# Altium schematic symbol library sun_library2.SchLib: 548 symbols (part 1 of 5)
Pins are listed as number, name and electrical type; pins without a type are passive.

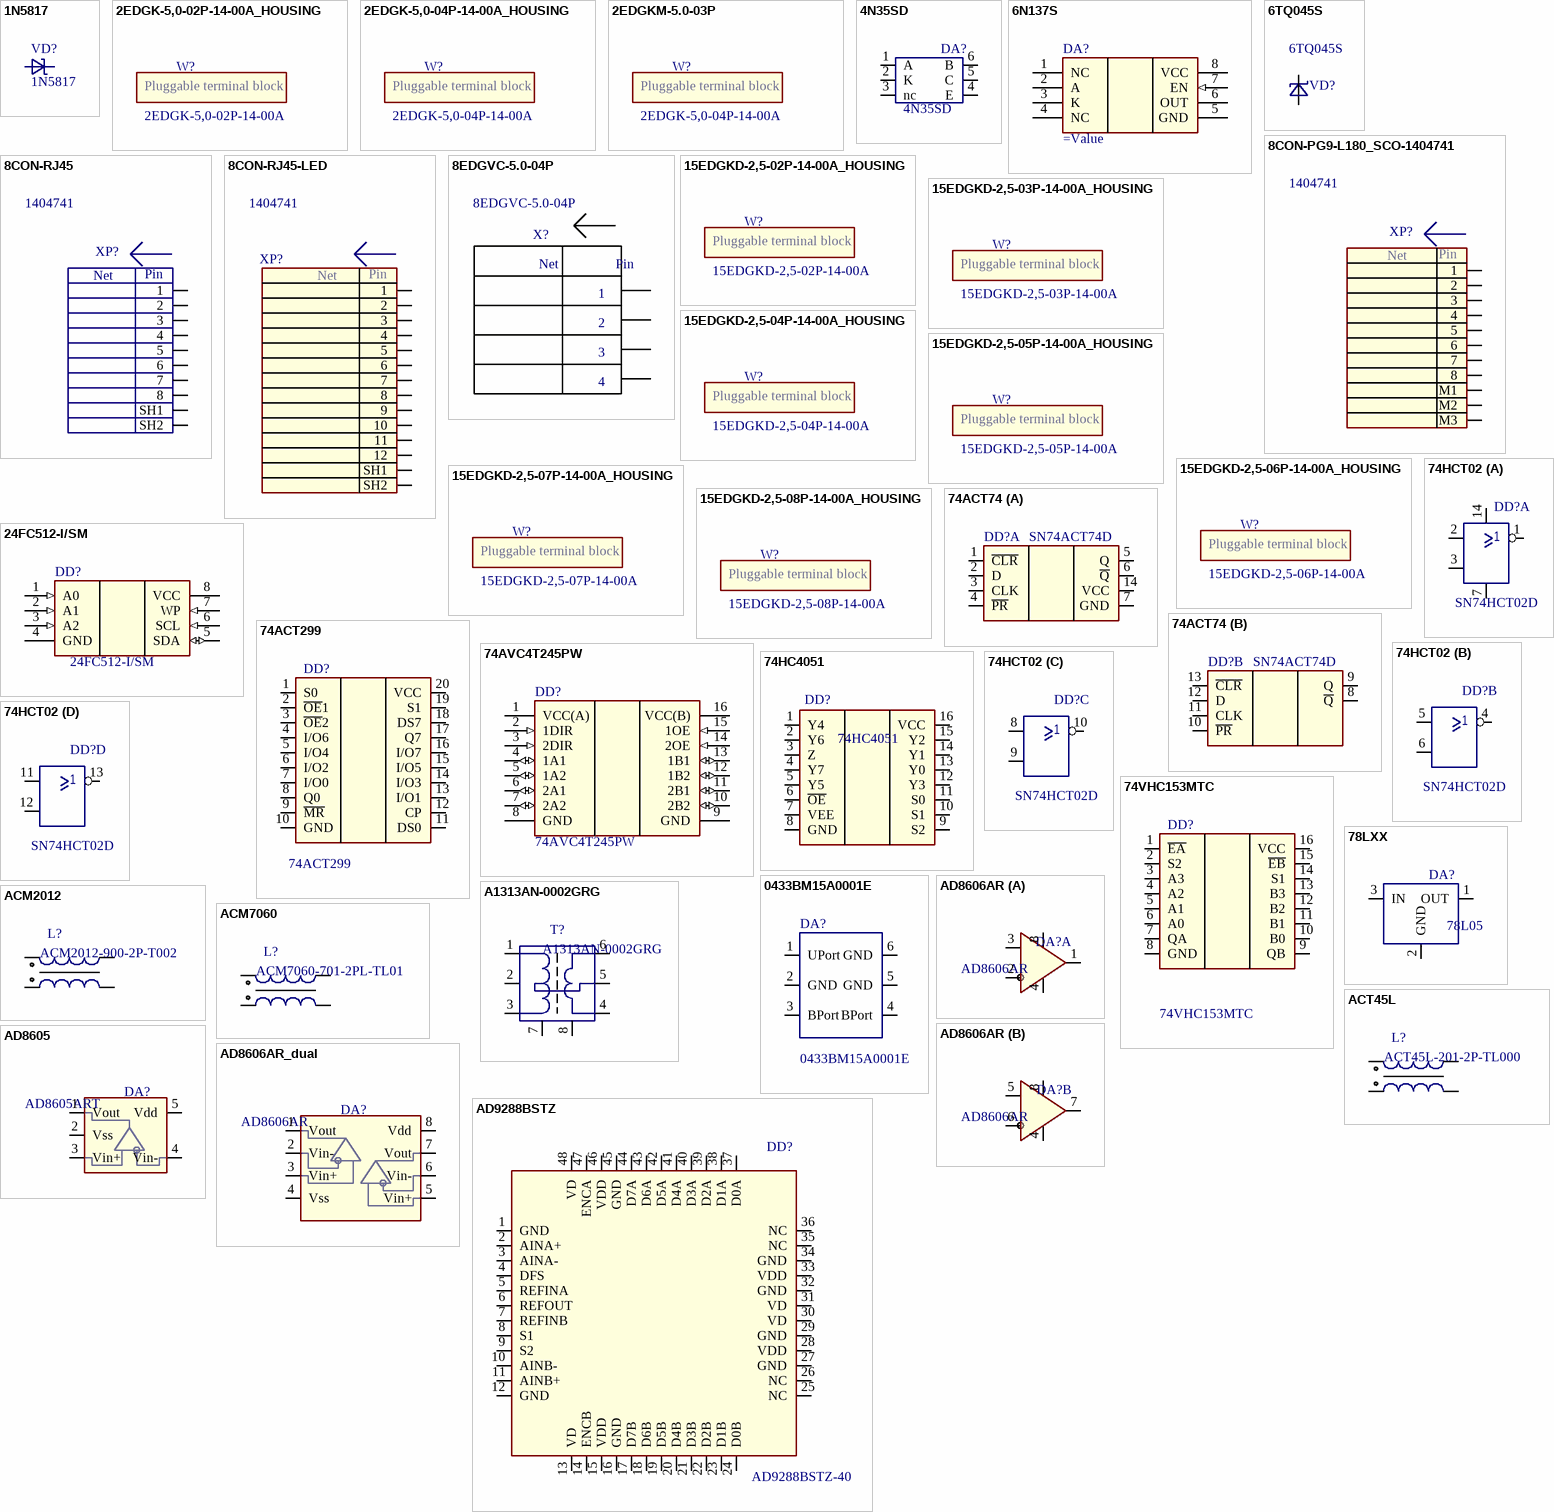
[diagram p0: symbols 1N5817 to AD9288BSTZ]

## 1N5817
designator VD?
Diode Shottky; Value: 1N5817
pins: A, C

## 2EDGK-5,0-02P-14-00A_HOUSING
designator W?, comment 2EDGK-5,0-02P-14-00A  (mechanical)
Value: 2EDGK-5,0-02P-14-00A
pins: 3 NC (power) hidden, 6 B hidden
text: Pluggable terminal block

## 2EDGK-5,0-04P-14-00A_HOUSING
designator W?, comment 2EDGK-5,0-04P-14-00A  (mechanical)
Value: 2EDGK-5,0-04P-14-00A
pins: 3 NC (power) hidden, 6 B hidden
text: Pluggable terminal block

## 2EDGKM-5.0-03P
designator W?, comment 2EDGK-5,0-04P-14-00A  (mechanical)
2EDGKM-5.0-03P-14-00A(H); Value: 2EDGK-5,0-04P-14-00A
pins: 3 NC (power) hidden, 6 B hidden
text: Pluggable terminal block

## 4N35SD
designator DA?
м/сх; Value: 4N35SD
footprint 4N35SD (Оптрон)
pins: 1 A (power), 2 K, 3 NC (power) hidden, 3 nc, 4 E, 5 C, 6 B hidden, 6 B

## 6N137S
designator DA?
Оптрон 10(1)Mbs
pins: 1 NC, 2 A, 3 K, 4 NC, 5 GND (power), 6 OUT (oc), 7 EN (in), 8 VCC (power)

## 6TQ045S
designator VD?
Value: 6TQ045S
pins: 1 hidden, 2, 3

## 8CON-PG9-L180_SCO-1404741
designator XP?, comment 1404741
Клеммник разъемный прямой; Value: 1404741
pins: 1, 2, 3, 4, 5, 6, 7, 8, M1, M2, M3
text: Net; Pin

## 8CON-RJ45
designator XP?, comment 1404741
RJ-45 экранированный прямой; Value: 1404741
pins: 1, 2, 3, 4, 5, 6, 7, 8, SH1, SH2
text: Net; Pin

## 8CON-RJ45-LED
designator XP?, comment 1404741
RJ-45 экранированный прямой; Value: 1404741
pins: 1, 2, 3, 4, 5, 6, 7, 8, 9, 10, 11, 12, SH1, SH2
text: Net; Pin

## 8EDGVC-5.0-04P
designator X?
Клеммник разъемный прямой; Value: 8EDGVC-5.0-04P
pins: 1, 2, 3, 4
text: Net; Pin

## 15EDGKD-2,5-02P-14-00A_HOUSING
designator W?, comment 15EDGKD-2,5-02P-14-00A  (mechanical)
Value: 15EDGKD-2,5-02P-14-00A
pins: 3 NC (power) hidden, 6 B hidden
text: Pluggable terminal block

## 15EDGKD-2,5-03P-14-00A_HOUSING
designator W?, comment 15EDGKD-2,5-03P-14-00A  (mechanical)
Value: 15EDGKD-2,5-03P-14-00A
pins: 3 NC (power) hidden, 6 B hidden
text: Pluggable terminal block

## 15EDGKD-2,5-04P-14-00A_HOUSING
designator W?, comment 15EDGKD-2,5-04P-14-00A  (mechanical)
Value: 15EDGKD-2,5-04P-14-00A
pins: 3 NC (power) hidden, 6 B hidden
text: Pluggable terminal block

## 15EDGKD-2,5-05P-14-00A_HOUSING
designator W?, comment 15EDGKD-2,5-05P-14-00A  (mechanical)
Value: 15EDGKD-2,5-05P-14-00A
pins: 3 NC (power) hidden, 6 B hidden
text: Pluggable terminal block

## 15EDGKD-2,5-06P-14-00A_HOUSING
designator W?, comment 15EDGKD-2,5-06P-14-00A  (mechanical)
Value: 15EDGKD-2,5-06P-14-00A
pins: 3 NC (power) hidden, 6 B hidden
text: Pluggable terminal block

## 15EDGKD-2,5-07P-14-00A_HOUSING
designator W?, comment 15EDGKD-2,5-07P-14-00A  (mechanical)
Value: 15EDGKD-2,5-07P-14-00A
pins: 3 NC (power) hidden, 6 B hidden
text: Pluggable terminal block

## 15EDGKD-2,5-08P-14-00A_HOUSING
designator W?, comment 15EDGKD-2,5-08P-14-00A  (mechanical)
Value: 15EDGKD-2,5-08P-14-00A
pins: 3 NC (power) hidden, 6 B hidden
text: Pluggable terminal block

## 24FC512-I/SM
designator DD?
I²C™ Serial EEPROM; Value: 24FC512-I/SM
pins: 1 A0 (in), 2 A1 (in), 3 A2 (in), 4 GND (power), 5 SDA (io), 6 SCL (in), 7 WP (in), 8 VCC (power)

## 74ACT74
designator DD?, comment SN74ACT74D
Микросхема SN74ACT74D SO-14 Texas Instr.; Manufacturer: Texas Instruments; Code: 99100178; Identifier: SN74ACT74D SO-14 Texas; Case: SO14; Part Number: SN74ACT74D; Value: SN74ACT74D
footprint SO-14
footprint SO14_L
part A pins: 1 ~{CLR}, 2 D (power), 3 CLK, 4 ~{PR}, 5 Q, 6 ~{Q}, 7 GND, 14 VCC
part B pins: 8 ~{Q}, 9 Q, 10 ~{PR}, 11 CLK, 12 D (power), 13 ~{CLR}

## 74ACT299
designator DD?
Register 8-bit; Value: 74ACT299
footprint SO-20 (20-Pin Small Outline Integrated Circuit 1.27 mm Pitch, IPC High Density)
pins: 1 S0, 2 ~{OE}1, 3 ~{OE}2, 4 I/O6, 5 I/O4, 6 I/O2, 7 I/O0, 8 Q0, 9 ~{MR}, 10 GND (power), 11 DS0, 12 CP, 13 I/O1, 14 I/O3, 15 I/O5, 16 I/O7, 17 Q7, 18 DS7 (power), 19 S1, 20 VCC (power)

## 74AVC4T245PW
designator DD?
4-bit dual supply translating transceiver; Value: 74AVC4T245PW
pins: 1 VCC(A) (power), 2 1DIR (in), 3 2DIR (in), 4 1A1 (io), 5 1A2 (io), 6 2A1 (io), 7 2A2 (io), 8 GND (power), 9 GND (power), 10 2B2 (io), 11 2B1 (io), 12 1B2 (io), 13 1B1 (io), 14 2OE (in), 15 1OE (in), 16 VCC(B) (power)

## 74HC4051
designator DD?
8-channel analog multiplexer/demultiplexer; Value: 74HC4051
pins: 1 Y4, 2 Y6, 3 Z, 4 Y7, 5 Y5, 6 ~{OE}, 7 VEE, 8 GND, 9 S2, 10 S1 (power), 11 S0, 12 Y3, 13 Y0, 14 Y1, 15 Y2, 16 VCC

## 74HCT02
designator DD?, comment SN74HCT02D
Quad 2-Input NOR Gate; Value: SN74HCT02D
footprint 751A-03_N (SOIC, 14-Leads, Body 8.7x3.9mm, Pitch 1.27mm, IPC Medium Density)
footprint 751A-03_L (SOIC, 14-Leads, Body 8.7x3.9mm, Pitch 1.27mm, IPC High Density)
footprint 751A-03_M (SOIC, 14-Leads, Body 8.7x3.9mm, Pitch 1.27mm, IPC Low Density)
footprint SO-14
part A pins: 1 ~{Y}, 2 A, 3 B, 7 GND, 14 VCC
part B pins: 4 ~{Y}, 5 A, 6 B
part C pins: 8 A, 9 B, 10 ~{Y}
part D pins: 11 A, 12 B, 13 ~{Y}

## 74VHC153MTC
designator DD?
м/сх, мультиплексор 4 в1, 2-х битный; Value: 74VHC153MTC
footprint TSSOP-16 (pitch 0.65mm)
pins: 1 ~{ЕА}, 2 S2, 3 A3, 4 A2, 5 A1, 6 A0, 7 QA, 8 GND (power), 9 QB, 10 B0, 11 B1, 12 B2, 13 B3, 14 S1, 15 ~{EB}, 16 VCC (power)

## 78LXX
designator DA?, comment 78L05
Линейный стабилизатор; Value: 78L05
pins: 1 OUT, 2 GND, 3 IN

## 0433BM15A0001E
designator DA?
0433BM15A0001E 433 MHz Impedance Matched/Balun/LPF Integrated Component for T.I. CC110X; Value: 0433BM15A0001E
pins: 1 UPort (power), 2 GND, 3 BPort, 4 BPort (power), 5 GND (power), 6 GND

## A1313AN-0002GRG
designator T?
RF Transformer, BOURNS; Value: A1313AN-0002GRG
pins: 1, 2, 3, 4, 5, 6, 7, 8

## ACM2012
designator L?, comment ACM2012-900-2P-T002
2-Line Chip Style  Common Mode Chokes, TDK; Value: ACM2012-900-2P-T002
pins: 1, 2, 3, 4

## ACM7060
designator L?, comment ACM7060-701-2PL-TL01
2-Line Chip Style  Common Mode Chokes, TDK; Value: ACM7060-701-2PL-TL01
pins: 1, 2, 3, 4

## ACT45L
designator L?, comment ACT45L-201-2P-TL000
2-Line Chip Style  Common Mode Chokes, TDK; Value: ACT45L-201-2P-TL000
pins: 1, 2, 3, 4

## AD8605
designator DA?, comment AD8605ART
Precision, Low Noise, CMOS, Rail-to-Rail,  Input/Output Operational Amplifiers; Value: AD8605ART
pins: 1 Vout (power), 2 Vss, 3 Vin+, 4 Vin-, 5 Vdd

## AD8606AR
designator DA?
Precision, Low Noise, CMOS, Rail-to-Rail,  Input/Output Operational Amplifiers; Value: AD8606AR
part A pins: 1 Vout (power), 2 Vin-, 3 Vin+, 4 -, 8 Vdd
part B pins: 4 -, 5 Vin+, 6 Vin-, 7 Vout (power), 8 Vdd

## AD8606AR_dual
designator DA?, comment AD8606AR
Precision, Low Noise, CMOS, Rail-to-Rail,  Input/Output Operational Amplifiers; Value: AD8606AR
pins: 1 Vout (power), 2 Vin-, 3 Vin+, 4 Vss, 5 Vin+, 6 Vin-, 7 Vout (power), 8 Vdd

## AD9288BSTZ
designator DD?, comment AD9288BSTZ-40
Микросхема; Value: AD9288BSTZ-40
pins: 1 GND, 2 AINA+, 3 AINA-, 4 DFS, 5 REFINA, 6 REFOUT, 7 REFINB, 8 S1, 9 S2, 10 AINB-, 11 AINB+, 12 GND, 13 VD, 14 ENCB, 15 VDD, 16 GND, 17 D7B, 18 D6B, 19 D5B, 20 D4B, 21 D3B, 22 D2B, 23 D1B, 24 D0B, 25 NC, 26 NC, 27 GND, 28 VDD, 29 GND, 30 VD, 31 VD, 32 GND, 33 VDD, 34 GND, 35 NC, 36 NC, 37 D0A, 38 D1A, 39 D2A, 40 D3A, 41 D4A, 42 D5A, 43 D6A, 44 D7A, 45 GND, 46 VDD, 47 ENCA, 48 VD

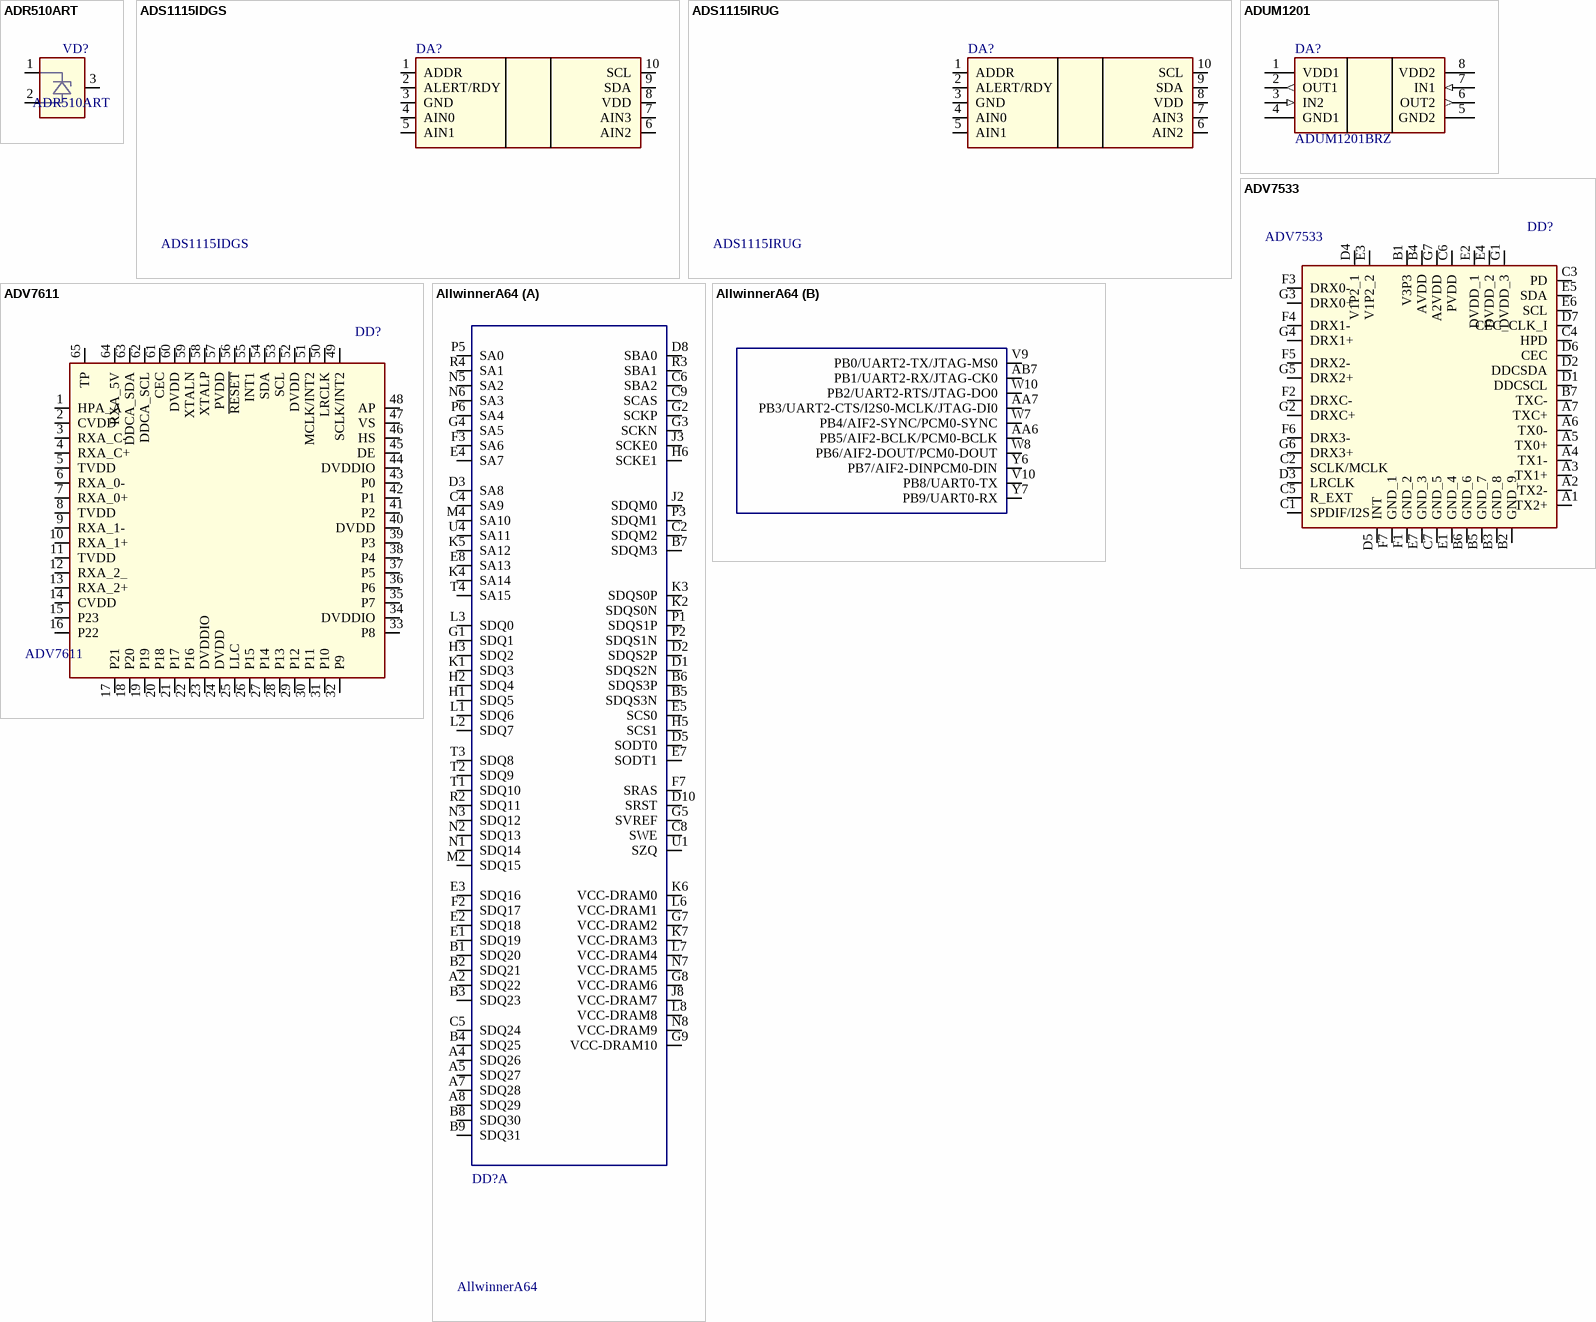
[diagram p1: symbols ADR510ART to AllwinnerA64]

## ADR510ART
designator VD?
диод, SMD; Value: ADR510ART
pins: 1 C, 2 A, 3 nc

## ADS1115IDGS
designator DA?
16-Bit ADCs  With Internal Reference; Value: ADS1115IDGS
pins: 1 ADDR (power), 2 ALERT/RDY, 3 GND, 4 AIN0 (power), 5 AIN1 (power), 6 AIN2, 7 AIN3, 8 VDD (power), 9 SDA (power), 10 SCL (power)

## ADS1115IRUG
designator DA?
16-Bit ADCs  With Internal Reference; Value: ADS1115IRUG
pins: 1 ADDR (power), 2 ALERT/RDY, 3 GND, 4 AIN0 (power), 5 AIN1 (power), 6 AIN2, 7 AIN3, 8 VDD (power), 9 SDA (power), 10 SCL (power)

## ADUM1201
designator DA?, comment ADUM1201BRZ
Микросхема; Value: ADUM1201BRZ
pins: 1 VDD1 (power), 2 OUT1 (out), 3 IN2 (in), 4 GND1 (power), 5 GND2 (power), 6 OUT2 (out), 7 IN1 (in), 8 VDD2 (power)

## ADV7533
designator DD?
MIPI/DSI Receiver  with HDMI Transmitter; Value: ADV7533
pins: A1 TX2+, A2 TX2-, A3 TX1+, A4 TX1-, A5 TX0+, A6 TX0-, A7 TXC+, B1 V3P3, B2 GND_9, B3 GND_8, B4 AVDD, B5 GND_7, B6 GND_6, B7 TXC-, C1 SPDIF/I2S, C2 SCLK/MCLK, C3 PD, C4 HPD, C5 R_EXT, C6 PVDD, C7 GND_5, D1 DDCSCL, D2 DDCSDA, D3 LRCLK, D4 V1P2_1, D5 INT, D6 CEC, D7 CEC_CLK_I, E1 GND_4, E2 DVDD_1, E3 V1P2_2, E4 DVDD_2, E5 SDA, E6 SCL, E7 GND_3, F1 GND_2, F2 DRXC-, F3 DRX0-, F4 DRX1-, F5 DRX2-, F6 DRX3-, F7 GND_1, G1 DVDD_3, G2 DRXC+, G3 DRX0+, G4 DRX1+, G5 DRX2+, G6 DRX3+, G7 A2VDD

## ADV7611
designator DD?
HDMI to RGB 24bit; Value: ADV7611
pins: 1 HPA_A, 2 CVDD, 3 RXA_C-, 4 RXA_C+, 5 TVDD, 6 RXA_0-, 7 RXA_0+, 8 TVDD, 9 RXA_1-, 10 RXA_1+, 11 TVDD (power), 12 RXA_2_ (power), 13 RXA_2+, 14 CVDD, 15 P23, 16 P22, 17 P21, 18 P20, 19 P19, 20 P18, 21 P17, 22 P16, 23 DVDDIO, 24 DVDD, 25 LLC (power), 26 P15 (power), 27 P14, 28 P13, 29 P12, 30 P11, 31 P10 (power), 32 P9 (power), 33 P8, 34 DVDDIO, 35 P7, 36 P6, 37 P5, 38 P4, 39 P3 (power), 40 DVDD (power), 41 P2, 42 P1, 43 P0, 44 DVDDIO, 45 DE, 46 HS (power), 47 VS (power), 48 AP, 49 SCLK/INT2, 50 LRCLK, 51 MCLK/INT2 (power), 52 DVDD (power), 53 SCL, 54 SDA, 55 INT1, 56 ~{RESET} (power), 57 PVDD (power), 58 XTALP (power), 59 XTALN (power), 60 DVDD, 61 CEC, 62 DDCA_SCL, 63 DDCA_SDA, 64 RXA_5V, 65 TP

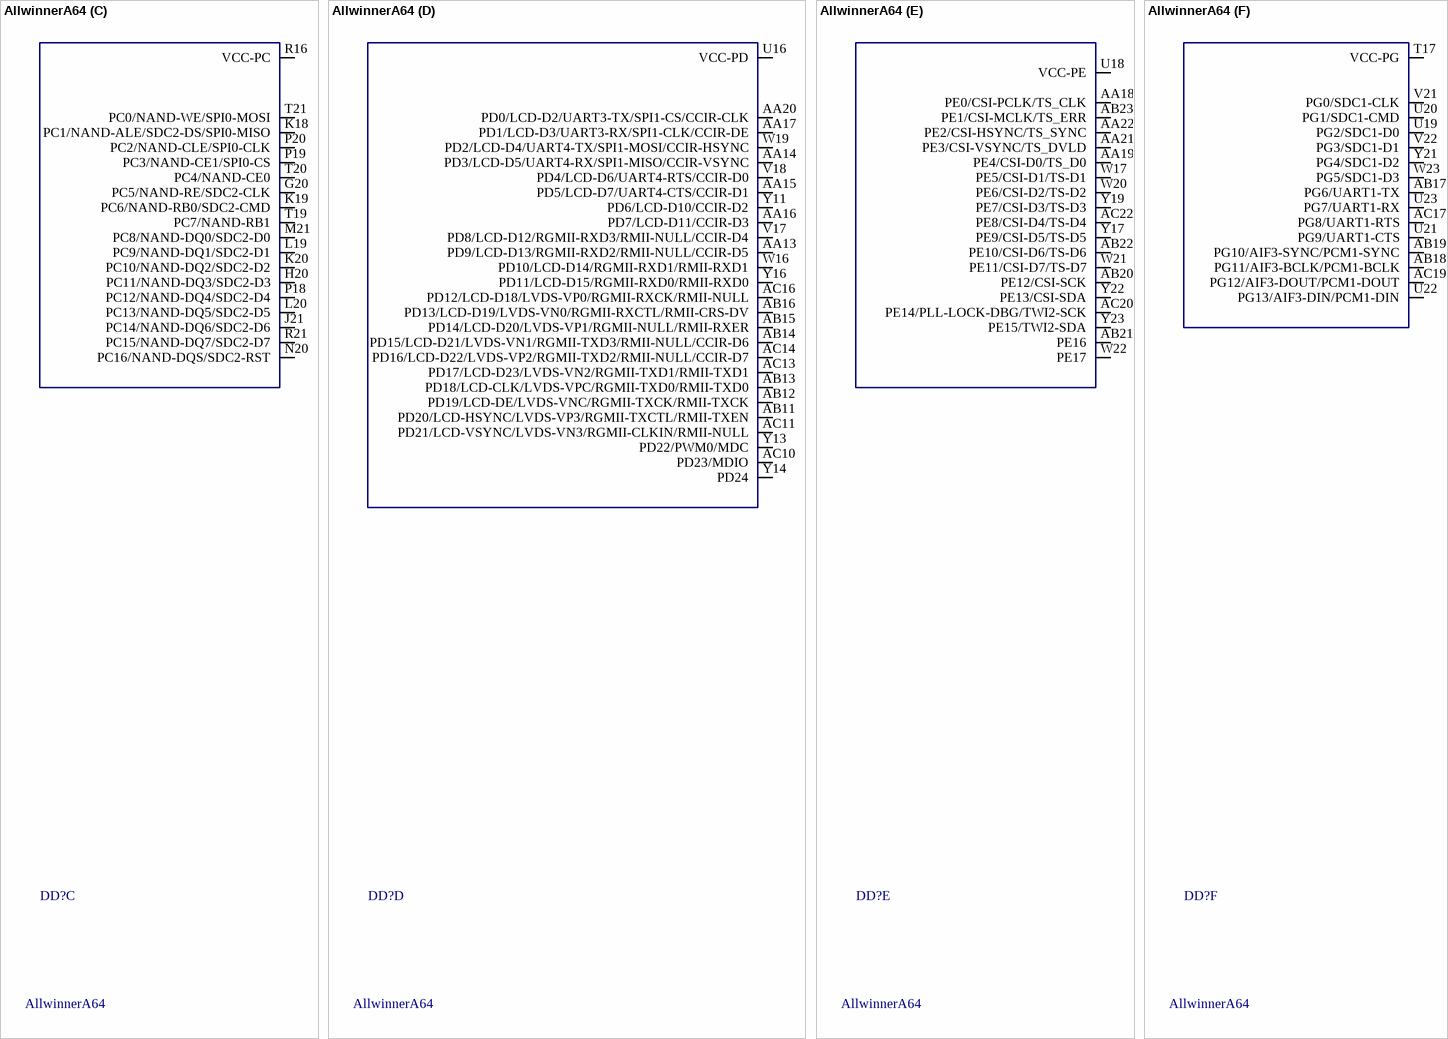
[diagram p2: symbol AllwinnerA64]

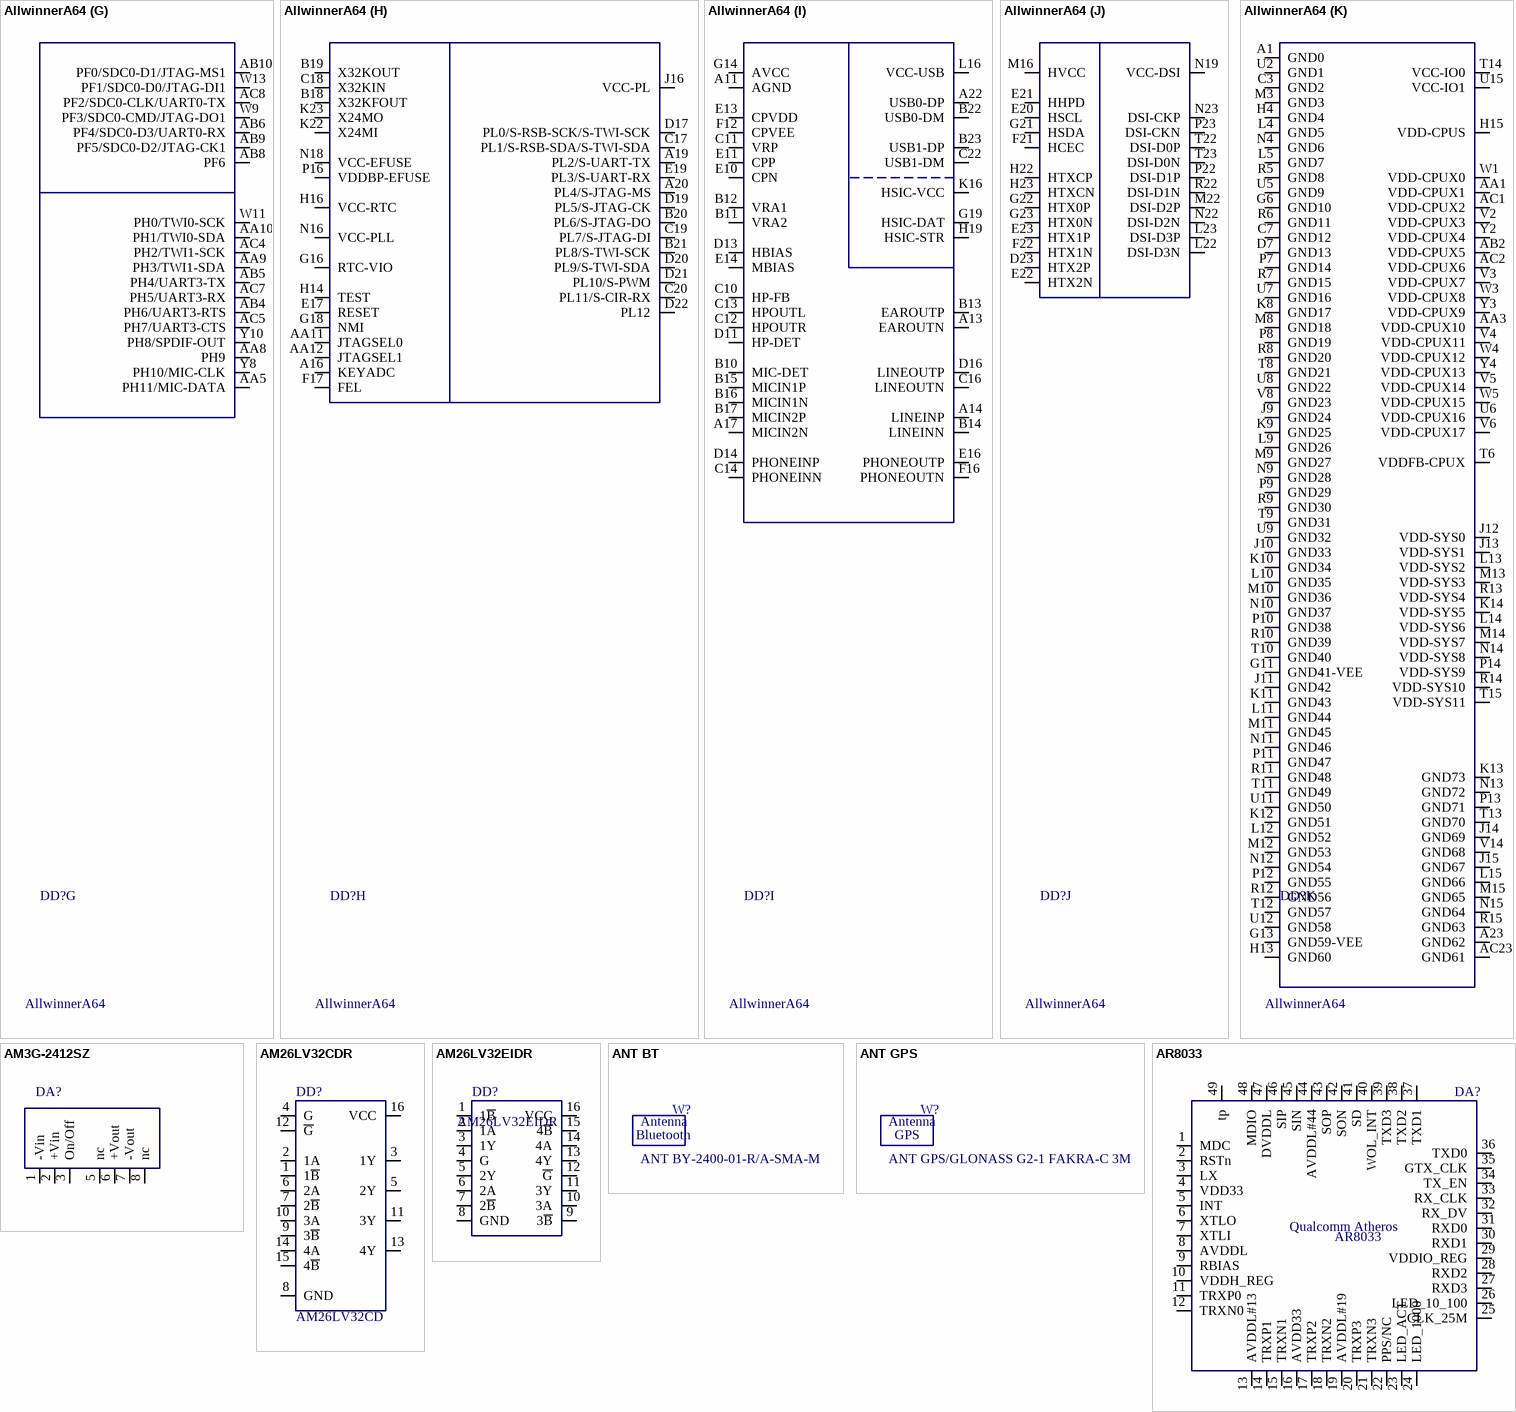
[diagram p3: symbols AllwinnerA64 to AR8033]

## AllwinnerA64
designator DD?
Value: AllwinnerA64
part A pins: A2 SDQ22, A4 SDQ26, A5 SDQ27, A7 SDQ28, A8 SDQ29, B1 SDQ20, B2 SDQ21, B3 SDQ23, B4 SDQ25, B5 SDQS3N, B6 SDQS3P, B7 SDQM3, B8 SDQ30, B9 SDQ31, C2 SDQM2, C4 SA9, C5 SDQ24, C6 SBA2, C8 SWE, C9 SCAS, D1 SDQS2N, D2 SDQS2P, D3 SA8, D5 SODT0, D8 SBA0, D10 SRST, E1 SDQ19, E2 SDQ18, E3 SDQ16, E4 SA7, E5 SCS0, E7 SODT1, E8 SA13, F2 SDQ17, F3 SA6, F7 SRAS, G1 SDQ1, G2 SCKP, G3 SCKN, G4 SA5, G5 SVREF, G7 VCC-DRAM2, G8 VCC-DRAM6, G9 VCC-DRAM10, H1 SDQ5, H2 SDQ4, H3 SDQ2, H5 SCS1, H6 SCKE1, J2 SDQM0, J3 SCKE0, J8 VCC-DRAM7, K1 SDQ3, K2 SDQS0N, K3 SDQS0P, K4 SA14, K5 SA12, K6 VCC-DRAM0, K7 VCC-DRAM3, L1 SDQ6, L2 SDQ7, L3 SDQ0, L6 VCC-DRAM1, L7 VCC-DRAM4, L8 VCC-DRAM8, M2 SDQ15, M4 SA10, N1 SDQ14, N2 SDQ13, N3 SDQ12, N5 SA2, N6 SA3, N7 VCC-DRAM5, N8 VCC-DRAM9, P1 SDQS1P, P2 SDQS1N, P3 SDQM1, P5 SA0, P6 SA4, R2 SDQ11, R3 SBA1, R4 SA1, T1 SDQ10, T2 SDQ9, T3 SDQ8, T4 SA15, U1 SZQ, U4 SA11
part B pins: AA6 PB5/AIF2-BCLK/PCM0-BCLK, AA7 PB3/UART2-CTS/I2S0-MCLK/JTAG-DI0, AB7 PB1/UART2-RX/JTAG-CK0, V9 PB0/UART2-TX/JTAG-MS0, V10 PB8/UART0-TX, W7 PB4/AIF2-SYNC/PCM0-SYNC, W8 PB6/AIF2-DOUT/PCM0-DOUT, W10 PB2/UART2-RTS/JTAG-DO0, Y6 PB7/AIF2-DINPCM0-DIN, Y7 PB9/UART0-RX
part C pins: G20 PC5/NAND-RE/SDC2-CLK, H20 PC11/NAND-DQ3/SDC2-D3, J21 PC14/NAND-DQ6/SDC2-D6, K18 PC1/NAND-ALE/SDC2-DS/SPI0-MISO, K19 PC6/NAND-RB0/SDC2-CMD, K20 PC10/NAND-DQ2/SDC2-D2, L19 PC9/NAND-DQ1/SDC2-D1, L20 PC13/NAND-DQ5/SDC2-D5, M21 PC8/NAND-DQ0/SDC2-D0, N20 PC16/NAND-DQS/SDC2-RST, P18 PC12/NAND-DQ4/SDC2-D4, P19 PC3/NAND-CE1/SPI0-CS, P20 PC2/NAND-CLE/SPI0-CLK, R16 VCC-PC, R21 PC15/NAND-DQ7/SDC2-D7, T19 PC7/NAND-RB1, T20 PC4/NAND-CE0, T21 PC0/NAND-WE/SPI0-MOSI
part D pins: AA13 PD9/LCD-D13/RGMII-RXD2/RMII-NULL/CCIR-D5, AA14 PD3/LCD-D5/UART4-RX/SPI1-MISO/CCIR-VSYNC, AA15 PD5/LCD-D7/UART4-CTS/CCIR-D1, AA16 PD7/LCD-D11/CCIR-D3, AA17 PD1/LCD-D3/UART3-RX/SPI1-CLK/CCIR-DE, AA20 PD0/LCD-D2/UART3-TX/SPI1-CS/CCIR-CLK, AB11 PD20/LCD-HSYNC/LVDS-VP3/RGMII-TXCTL/RMII-TXEN, AB12 PD19/LCD-DE/LVDS-VNC/RGMII-TXCK/RMII-TXCK, AB13 PD18/LCD-CLK/LVDS-VPC/RGMII-TXD0/RMII-TXD0, AB14 PD15/LCD-D21/LVDS-VN1/RGMII-TXD3/RMII-NULL/CCIR-D6, AB15 PD14/LCD-D20/LVDS-VP1/RGMII-NULL/RMII-RXER, AB16 PD13/LCD-D19/LVDS-VN0/RGMII-RXCTL/RMII-CRS-DV, AC10 PD23/MDIO, AC11 PD21/LCD-VSYNC/LVDS-VN3/RGMII-CLKIN/RMII-NULL, AC13 PD17/LCD-D23/LVDS-VN2/RGMII-TXD1/RMII-TXD1, AC14 PD16/LCD-D22/LVDS-VP2/RGMII-TXD2/RMII-NULL/CCIR-D7, AC16 PD12/LCD-D18/LVDS-VP0/RGMII-RXCK/RMII-NULL, U16 VCC-PD, V17 PD8/LCD-D12/RGMII-RXD3/RMII-NULL/CCIR-D4, V18 PD4/LCD-D6/UART4-RTS/CCIR-D0, W16 PD10/LCD-D14/RGMII-RXD1/RMII-RXD1, W19 PD2/LCD-D4/UART4-TX/SPI1-MOSI/CCIR-HSYNC, Y11 PD6/LCD-D10/CCIR-D2, Y13 PD22/PWM0/MDC, Y14 PD24, Y16 PD11/LCD-D15/RGMII-RXD0/RMII-RXD0
part E pins: AA18 PE0/CSI-PCLK/TS_CLK, AA19 PE4/CSI-D0/TS_D0, AA21 PE3/CSI-VSYNC/TS_DVLD, AA22 PE2/CSI-HSYNC/TS_SYNC, AB20 PE12/CSI-SCK, AB21 PE16, AB22 PE10/CSI-D6/TS-D6, AB23 PE1/CSI-MCLK/TS_ERR, AC20 PE14/PLL-LOCK-DBG/TWI2-SCK, AC22 PE8/CSI-D4/TS-D4, U18 VCC-PE, W17 PE5/CSI-D1/TS-D1, W20 PE6/CSI-D2/TS-D2, W21 PE11/CSI-D7/TS-D7, W22 PE17, Y17 PE9/CSI-D5/TS-D5, Y19 PE7/CSI-D3/TS-D3, Y22 PE13/CSI-SDA, Y23 PE15/TWI2-SDA
part F pins: AB17 PG6/UART1-TX, AB18 PG11/AIF3-BCLK/PCM1-BCLK, AB19 PG10/AIF3-SYNC/PCM1-SYNC, AC17 PG8/UART1-RTS, AC19 PG12/AIF3-DOUT/PCM1-DOUT, T17 VCC-PG, U19 PG2/SDC1-D0, U20 PG1/SDC1-CMD, U21 PG9/UART1-CTS, U22 PG13/AIF3-DIN/PCM1-DIN, U23 PG7/UART1-RX, V21 PG0/SDC1-CLK, V22 PG3/SDC1-D1, W23 PG5/SDC1-D3, Y21 PG4/SDC1-D2
part G pins: AA5 PH11/MIC-DATA, AA8 PH9, AA9 PH3/TWI1-SDA, AA10 PH1/TWI0-SDA, AB4 PH6/UART3-RTS, AB5 PH4/UART3-TX, AB6 PF4/SDC0-D3/UART0-RX, AB8 PF6, AB9 PF5/SDC0-D2/JTAG-CK1, AB10 PF0/SDC0-D1/JTAG-MS1, AC4 PH2/TWI1-SCK, AC5 PH7/UART3-CTS, AC7 PH5/UART3-RX, AC8 PF2/SDC0-CLK/UART0-TX, W9 PF3/SDC0-CMD/JTAG-DO1, W11 PH0/TWI0-SCK, W13 PF1/SDC0-D0/JTAG-DI1, Y8 PH10/MIC-CLK, Y10 PH8/SPDIF-OUT
part H pins: A16 KEYADC, A19 PL2/S-UART-TX, A20 PL4/S-JTAG-MS, AA11 JTAGSEL0, AA12 JTAGSEL1, B18 X32KFOUT, B19 X32KOUT, B20 PL6/S-JTAG-DO, B21 PL8/S-TWI-SCK, C17 PL1/S-RSB-SDA/S-TWI-SDA, C18 X32KIN, C19 PL7/S-JTAG-DI, C20 PL11/S-CIR-RX, D17 PL0/S-RSB-SCK/S-TWI-SCK, D19 PL5/S-JTAG-CK, D20 PL9/S-TWI-SDA, D21 PL10/S-PWM, D22 PL12, E17 RESET, E19 PL3/S-UART-RX, F17 FEL, G16 RTC-VIO, G18 NMI, H14 TEST, H16 VCC-RTC, J16 VCC-PL, K22 X24MI, K23 X24MO, N16 VCC-PLL, N18 VCC-EFUSE, P16 VDDBP-EFUSE
part I pins: A11 AGND, A13 EAROUTN, A14 LINEINP, A17 MICIN2N, A22 USB0-DP, B10 MIC-DET, B11 VRA2, B12 VRA1, B13 EAROUTP, B14 LINEINN, B15 MICIN1P, B16 MICIN1N, B17 MICIN2P, B22 USB0-DM, B23 USB1-DP, C10 HP-FB, C11 VRP, C12 HPOUTR, C13 HPOUTL, C14 PHONEINN, C16 LINEOUTN, C22 USB1-DM, D11 HP-DET, D13 HBIAS, D14 PHONEINP, D16 LINEOUTP, E10 CPN, E11 CPP, E13 CPVDD, E14 MBIAS, E16 PHONEOUTP, F12 CPVEE, F16 PHONEOUTN, G14 AVCC, G19 HSIC-DAT, H19 HSIC-STR, K16 HSIC-VCC, L16 VCC-USB
part J pins: D23 HTX2P, E20 HSCL, E21 HHPD, E22 HTX2N, E23 HTX1P, F21 HCEC, F22 HTX1N, G21 HSDA, G22 HTX0P, G23 HTX0N, H22 HTXCP, H23 HTXCN, L22 DSI-D3N, L23 DSI-D3P, M16 HVCC, M22 DSI-D2P, N19 VCC-DSI, N22 DSI-D2N, N23 DSI-CKP, P22 DSI-D1P, P23 DSI-CKN, R22 DSI-D1N, T22 DSI-D0P, T23 DSI-D0N
part K pins: A1 GND0, A23 GND62, AA1 VDD-CPUX1, AA3 VDD-CPUX10, AB2 VDD-CPUX5, AC1 VDD-CPUX2, AC2 VDD-CPUX6, AC23 GND61, C3 GND2, C7 GND12, D7 GND13, G6 GND10, G11 GND41-VEE, G13 GND59-VEE, H4 GND4, H13 GND60, H15 VDD-CPUS, J9 GND24, J10 GND33, J11 GND42, J12 VDD-SYS0, J13 VDD-SYS1, J14 GND69, J15 GND67, K8 GND17, K9 GND25, K10 GND34, K11 GND43, K12 GND51, K13 GND73, K14 VDD-SYS5, L4 GND5, L5 GND7, L9 GND26, L10 GND35, L11 GND44, L12 GND52, L13 VDD-SYS2, L14 VDD-SYS6, L15 GND66, M3 GND3, M8 GND18, M9 GND27, M10 GND36, M11 GND45, M12 GND53, M13 VDD-SYS3, M14 VDD-SYS7, M15 GND65, N4 GND6, N9 GND28, N10 GND37, N11 GND46, N12 GND54, N13 GND72, N14 VDD-SYS8, N15 GND64, P7 GND14, P8 GND19, P9 GND29, P10 GND38, P11 GND47, P12 GND55, P13 GND71, P14 VDD-SYS9, R5 GND8, R6 GND11, R7 GND15, R8 GND20, R9 GND30, R10 GND39, R11 GND48, R12 GND56, R13 VDD-SYS4, R14 VDD-SYS10, R15 GND63, T6 VDDFB-CPUX, T8 GND21, T9 GND31, T10 GND40, T11 GND49, T12 GND57, T13 GND70, T14 VCC-IO0, T15 VDD-SYS11, U2 GND1, U5 GND9, U6 VDD-CPUX16, U7 GND16, U8 GND22, U9 GND32, U11 GND50, U12 GND58, U15 VCC-IO1, V2 VDD-CPUX3, V3 VDD-CPUX7, V4 VDD-CPUX11, V5 VDD-CPUX14, V6 VDD-CPUX17, V8 GND23, V14 GND68, W1 VDD-CPUX0, W3 VDD-CPUX8, W4 VDD-CPUX12, W5 VDD-CPUX15, Y2 VDD-CPUX4, Y3 VDD-CPUX9, Y4 VDD-CPUX13

## AM3G-2412SZ
designator DA?
м/сх; Value: AM3G-2412SZ
pins: 1 -Vin (power), 2 +Vin, 3 On/Off, 5 nc (power), 6 +Vout, 7 -Vout, 8 nc (power)

## AM26LV32CDR
designator DD?, comment AM26LV32CD
Differential line receiver; Value: AM26LV32CD
pins: 1 1~{B}, 2 1A, 3 1Y, 4 G, 5 2Y, 6 2A, 7 2~{B}, 8 GND, 9 3~{B}, 10 3A, 11 3Y, 12 ~{G}, 13 4Y, 14 4A, 15 4~{B}, 16 VCC

## AM26LV32EIDR
designator DD?
Differential line receiver; Value: AM26LV32EIDR
pins: 1 1~{B}, 2 1A, 3 1Y, 4 G, 5 2Y, 6 2A, 7 2~{B}, 8 GND, 9 3~{B}, 10 3A, 11 3Y, 12 ~{G}, 13 4Y, 14 4A, 15 4~{B}, 16 VCC

## ANT BT
designator W?, comment ANT BY-2400-01-R/A-SMA-M  (mechanical)
CONTACTs for JST connector EH series; Value: ANT BY-2400-01-R/A-SMA-M
pins: 3 NC (power) hidden, 6 B hidden
text: Antenna; Bluetooth

## ANT GPS
designator W?, comment ANT GPS/GLONASS G2-1 FAKRA-C 3M  (mechanical)
CONTACTs for JST connector EH series; Value: ANT GPS/GLONASS G2-1 FAKRA-C 3M
pins: 3 NC (power) hidden, 6 B hidden
text: Antenna; GPS

## AR8033
designator DA?
Integrated 10/100/1000 Mbps  Ethernet Transceiver; Value: AR8033
pins: 1 MDC, 2 RSTn, 3 LX, 4 VDD33, 5 INT, 6 XTLO (power), 7 XTLI (power), 8 AVDDL, 9 RBIAS, 10 VDDH_REG, 11 TRXP0, 12 TRXN0, 13 AVDDL#13, 14 TRXP1 (power), 15 TRXN1 (power), 16 AVDD33 (power), 17 TRXP2 (power), 18 TRXN2, 19 AVDDL#19, 20 TRXP3, 21 TRXN3 (power), 22 PPS/NC (power), 23 LED_ACT, 24 LED_1000, 25 CLK_25M, 26 LED_10_100, 27 RXD3, 28 RXD2, 29 VDDIO_REG, 30 RXD1 (power), 31 RXD0 (power), 32 RX_DV, 33 RX_CLK, 34 TX_EN, 35 GTX_CLK, 36 TXD0, 37 TXD1, 38 TXD2, 39 TXD3, 40 WOL_INT, 41 SD, 42 SON, 43 SOP, 44 AVDDL#44, 45 SIN, 46 SIP, 47 DVDDL, 48 MDIO, 49 tp
text: Qualcomm Atheros

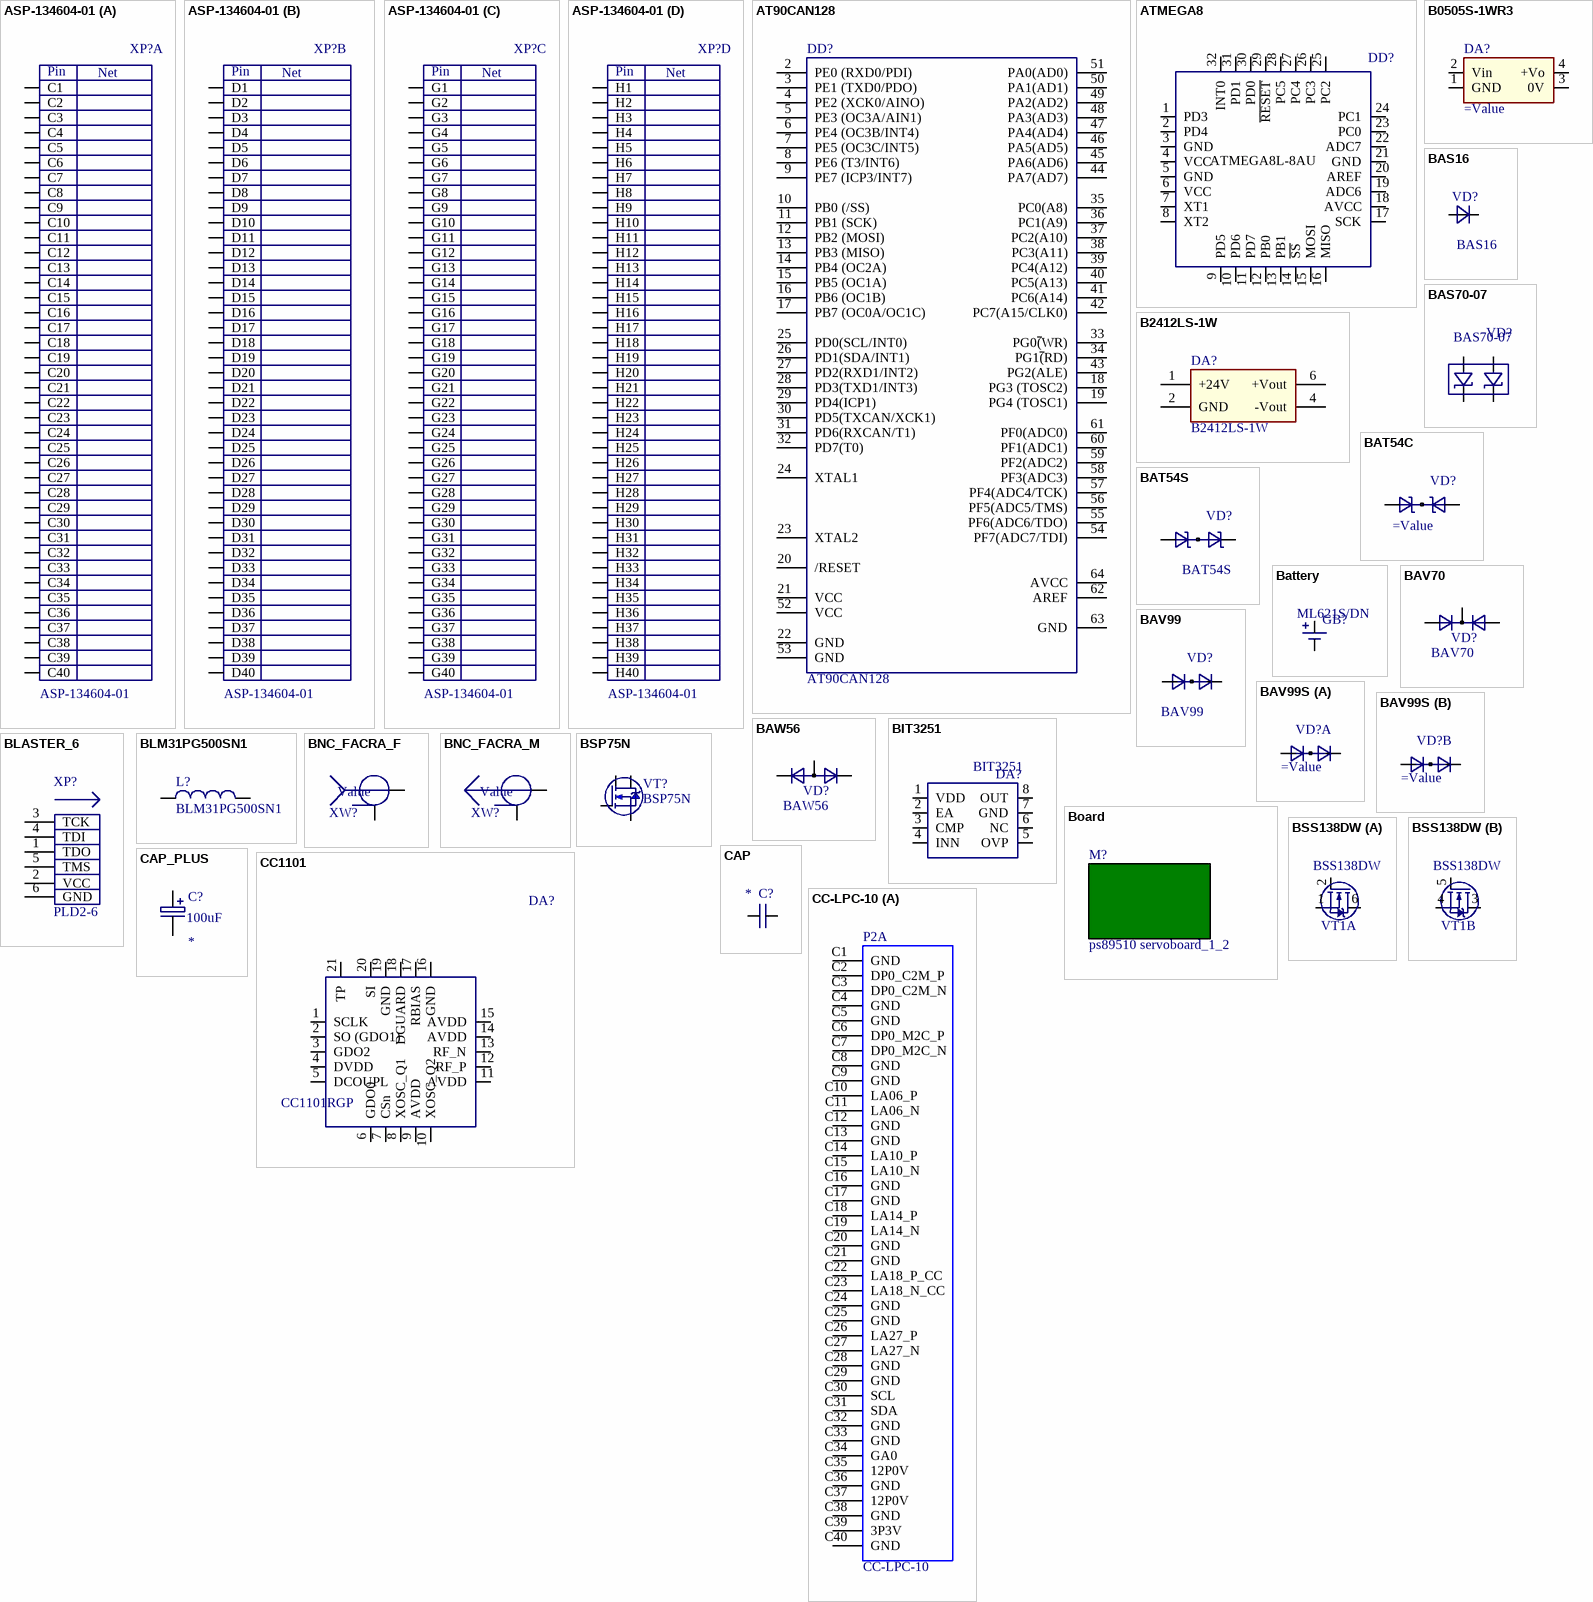
[diagram p4: symbols ASP-134604-01 to CC-LPC-10]

## ASP-134604-01
designator XP?
MC-LPC-10, FMC Low-pin count connector, lead free, 160 I/Os, male, 10 mm mated stack height; PartName: ASP-134604-01
part A pins: C1, C2, C3, C4, C5, C6, C7, C8, C9, C10, C11, C12, C13, C14, C15, C16, C17, C18, C19, C20, C21, C22, C23, C24, C25, C26, C27, C28, C29, C30, C31, C32, C33, C34, C35, C36, C37, C38, C39, C40
part B pins: D1, D2, D3, D4, D5, D6, D7, D8, D9, D10, D11, D12, D13, D14, D15, D16, D17, D18, D19, D20, D21, D22, D23, D24, D25, D26, D27, D28, D29, D30, D31, D32, D33, D34, D35, D36, D37, D38, D39, D40
part C pins: G1, G2, G3, G4, G5, G6, G7, G8, G9, G10, G11, G12, G13, G14, G15, G16, G17, G18, G19, G20, G21, G22, G23, G24, G25, G26, G27, G28, G29, G30, G31, G32, G33, G34, G35, G36, G37, G38, G39, G40
part D pins: H1, H2, H3, H4, H5, H6, H7, H8, H9, H10, H11, H12, H13, H14, H15, H16, H17, H18, H19, H20, H21, H22, H23, H24, H25, H26, H27, H28, H29, H30, H31, H32, H33, H34, H35, H36, H37, H38, H39, H40
part A text: Net; Pin
part B text: Net; Pin
part C text: Net; Pin
part D text: Net; Pin

## AT90CAN128
designator DD?
Микросхема; Value: AT90CAN128
pins: 1 hidden, 2 PE0 (RXD0/PDI), 3 PE1 (TXD0/PDO), 4 PE2 (XCK0/AINO), 5 PE3 (OC3A/AIN1), 6 PE4 (OC3B/INT4), 7 PE5 (OC3C/INT5), 8 PE6 (T3/INT6), 9 PE7 (ICP3/INT7), 10 PB0 (/SS), 11 PB1 (SCK), 12 PB2 (MOSI), 13 PB3 (MISO), 14 PB4 (OC2A), 15 PB5 (OC1A), 16 PB6 (OC1B), 17 PB7 (OC0A/OC1C), 18 PG3 (TOSC2), 19 PG4 (TOSC1), 20 /RESET, 21 VCC (power), 22 GND (power), 23 XTAL2, 24 XTAL1, 25 PD0(SCL/INT0), 26 PD1(SDA/INT1), 27 PD2(RXD1/INT2), 28 PD3(TXD1/INT3), 29 PD4(ICP1), 30 PD5(TXCAN/XCK1), 31 PD6(RXCAN/T1), 32 PD7(T0), 33 PG0~{(}WR), 34 PG1~{(}RD), 35 PC0(A8), 36 PC1(A9), 37 PC2(A10), 38 PC3(A11), 39 PC4(A12), 40 PC5(A13), 41 PC6(A14), 42 PC7(A15/CLK0), 43 PG2(ALE), 44 PA7(AD7), 45 PA6(AD6), 46 PA5(AD5), 47 PA4(AD4), 48 PA3(AD3), 49 PA2(AD2), 50 PA1(AD1), 51 PA0(AD0), 52 VCC (power), 53 GND (power), 54 PF7(ADC7/TDI), 55 PF6(ADC6/TDO), 56 PF5(ADC5/TMS), 57 PF4(ADC4/TCK), 58 PF3(ADC3), 59 PF2(ADC2), 60 PF1(ADC1), 61 PF0(ADC0), 62 AREF (power), 63 GND (power), 64 AVCC (power)

## ATMEGA8
designator DD?, comment ATMEGA8L-8AU
Atmel ATMEGA8L-8AU; Value: ATMEGA8L-8AU
pins: 1 PD3, 2 PD4, 3 GND, 4 VCC, 5 GND, 6 VCC, 7 XT1, 8 XT2, 9 PD5, 10 PD6, 11 PD7, 12 PB0, 13 PB1, 14 ~{SS}, 15 MOSI, 16 MISO, 17 SCK, 18 AVCC, 19 ADC6, 20 AREF, 21 GND, 22 ADC7, 23 PC0, 24 PC1, 25 PC2, 26 PC3, 27 PC4, 28 PC5, 29 ~{RESET}, 30 PD0, 31 PD1, 32 INT0

## B0505S-1WR3
designator DA?
м/сх
pins: 1 GND, 2 Vin (power), 3 0V, 4 +Vo

## B2412LS-1W
designator DA?
м/сх; Value: B2412LS-1W
pins: 1 +24V (power), 2 GND, 4 -Vout, 6 +Vout

## BAS16
designator VD?
диод, SMD; Value: BAS16
pins: A, C

## BAS70-07
designator VD?
General-purpose Schottky diodes; Value: BAS70-07
pins: 1, 2, 3, 4

## BAT54C
designator VD?
Small Signal Schottky Diodes Dual
pins: 1, 2, 3

## BAT54S
designator VD?
Small Signal Schottky Diodes Dual; Value: BAT54S
pins: 1, 2, 3

## Battery
designator GB?, comment ML621S/DN
Value: ML621S/DN
pins: 1 P, 2 N

## BAV70
designator VD?
High-speed double diode; Value: BAV70
pins: 1, 2, 3

## BAV99
designator VD?
High-speed double diode; Value: BAV99
pins: 1, 2, 3

## BAV99S
designator VD?
High-speed double diode
part A pins: 1, 2, 6
part B pins: 3, 4, 5

## BAW56
designator VD?
High-speed double diode; Value: BAW56
pins: 1, 2, 3

## BIT3251
designator DA?
high frequency PWM controller; Value: BIT3251
pins: 1 VDD, 2 EA (power), 3 CMP, 4 INN, 5 OVP (power), 6 NC, 7 GND, 8 OUT (power)

## BLASTER_6
designator XP?, comment PLD2-6
Разъем на плату; Value: PLD2-6
pins: 1 TDO, 2 VCC (power), 3 TCK, 4 TDI, 5 TMS, 6 GND (power)

## BLM31PG500SN1
designator L?
Индуктивность; Value: BLM31PG500SN1
pins: 1, 2

## BNC_FACRA_F
designator XW?, comment Value
Value: BNC_FACRA
pins: 1, 2

## BNC_FACRA_M
designator XW?, comment Value
Value: BNC_FACRA
pins: 1, 2

## Board
designator M?, comment ps89510 servoboard_1_2  (mechanical)
Плата печатная; Value: ps89510 servoboard_1_2

## BSP75N
designator VT?
Интеллектуальный ключ; Value: BSP75N
pins: 1, 2, 3, 4

## BSS138DW
designator VT1
Транзистор; Value: BSS138DW
part A pins: 1 S, 2 G, 6 D
part B pins: 3 D, 4 S, 5 G

## CAP
designator C?
керамический SMD; Value: *
pins: 1, 2

## CAP_PLUS
designator C?, comment 100uF
Конденсатор алюминиевый электролитический; Value: 100uF; Voltage: *
pins: 1, 2

## CC1101
designator DA?, comment CC1101RGP
CC1101RGP Low-Power Sub-1 GHz RF Transceiver; Value: CC1101RGP
pins: 1 SCLK, 2 SO (GDO1), 3 GDO2, 4 DVDD, 5 DCOUPL, 6 GDO0, 7 CSn, 8 XOSC_Q1, 9 AVDD, 10 XOSC_Q2, 11 AVDD, 12 RF_P, 13 RF_N, 14 AVDD, 15 AVDD, 16 GND, 17 RBIAS, 18 DGUARD, 19 GND, 20 SI, 21 TP

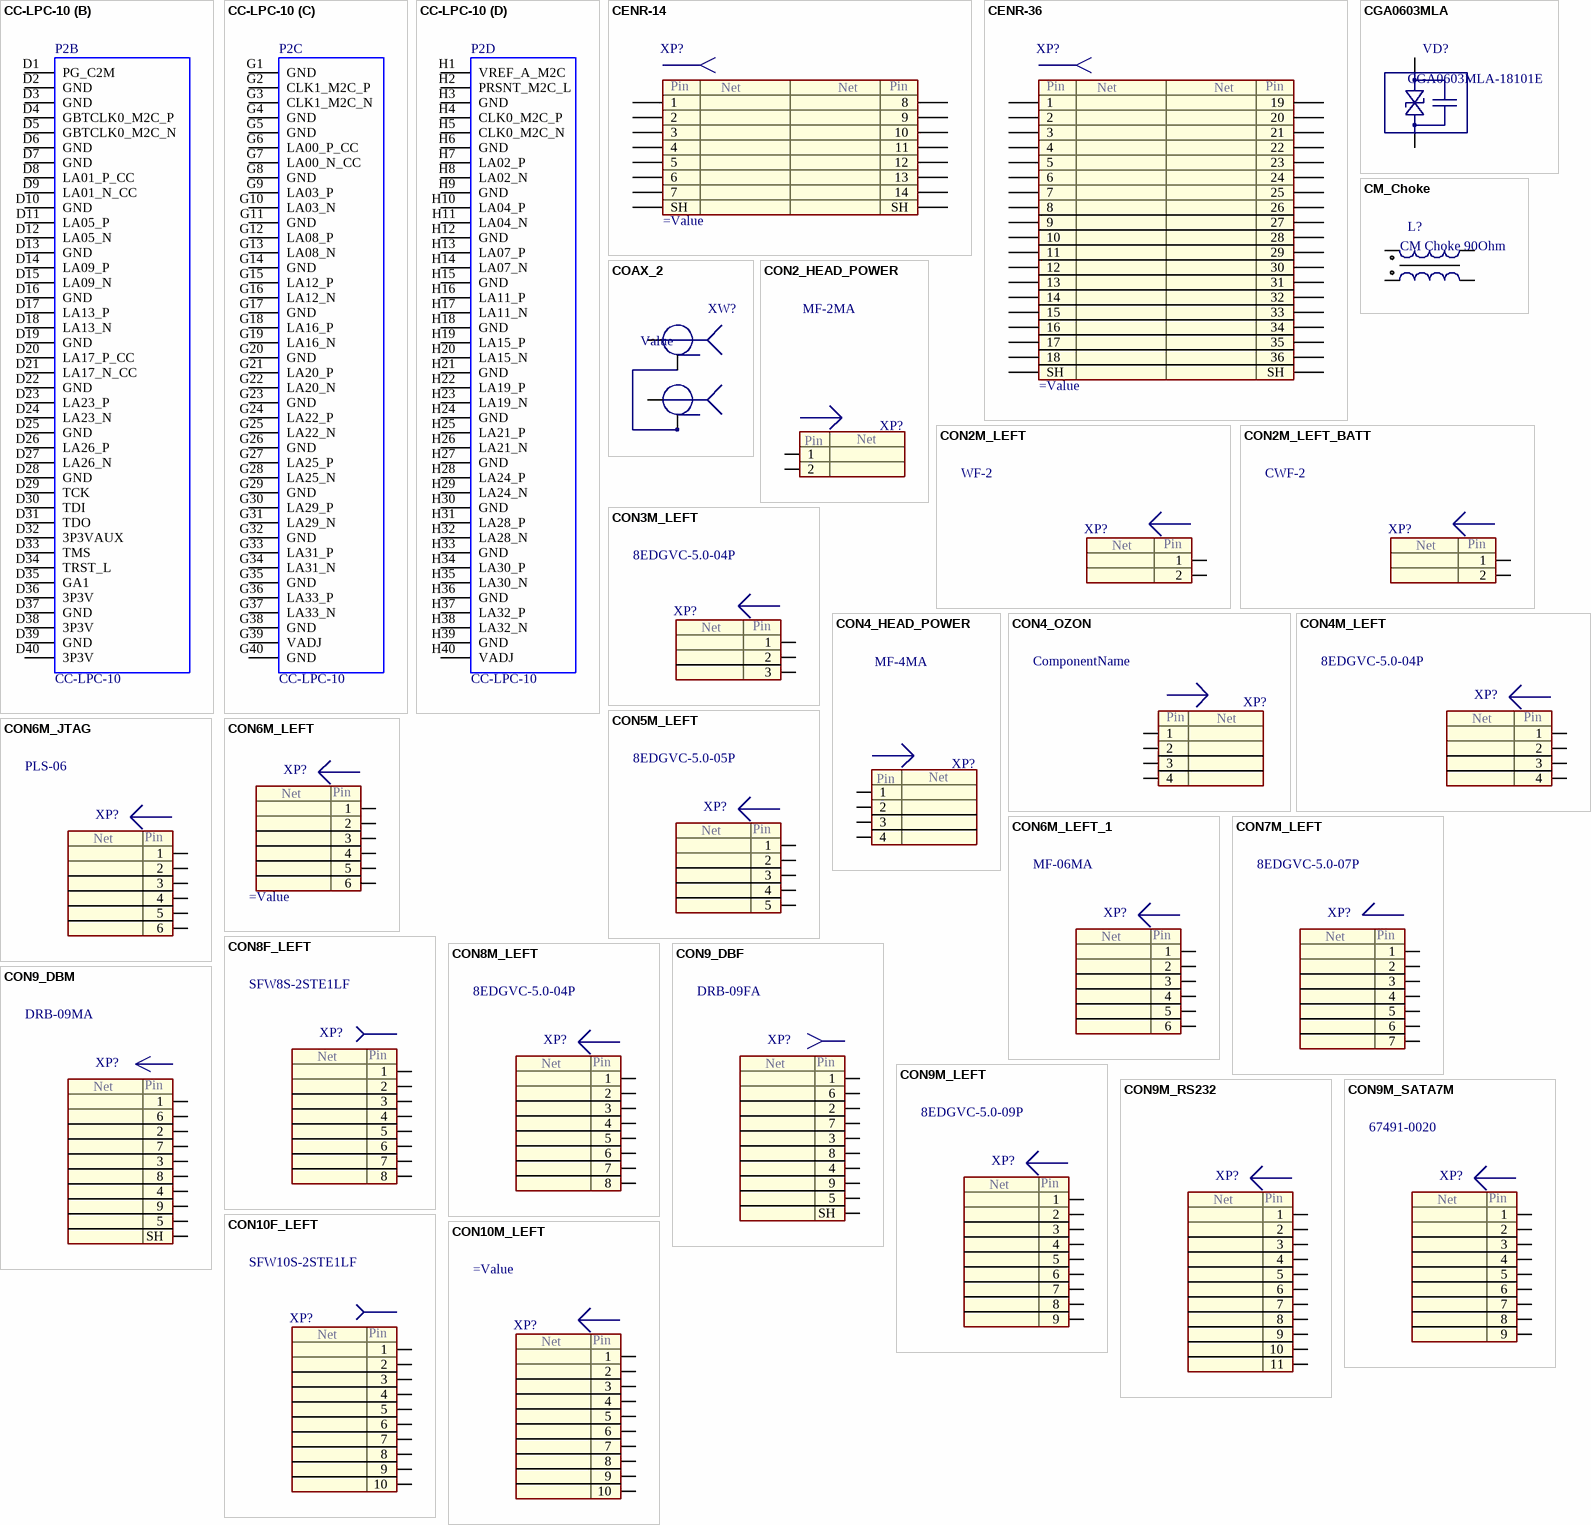
[diagram p5: symbols CC-LPC-10 to CON10M_LEFT]

## CC-LPC-10
designator P2
CC-LPC-10, FMC Low-pin count connector, lead free, 160 I/Os, female, 10 mm mated stack height; Manufacturer: Samtec; PartName: ASP-134603-01; Manufacturer Ref: SEAF-40-06.5-10-A; Pitch: 1.27 mm; Mated Stack Height: 10 mm; Solder Type: Lead-Free; Number I/O: 160; Part: ASP-134603-01; Vita PartNumber: CC-LPC-10; Pin Count: Low; Gender: female; Supplier 1: Digi-Key; Supplier Part Number 1: SAM8729-ND
footprint ASP-134603-01 (CC-LPC-10, 1.27mm PITCH SOCKET ARRAY ASSEMBLY, FEMALE, VITA 57 CONNECTOR)
part A pins: C1 GND, C2 DP0_C2M_P, C3 DP0_C2M_N, C4 GND, C5 GND, C6 DP0_M2C_P, C7 DP0_M2C_N, C8 GND, C9 GND, C10 LA06_P, C11 LA06_N, C12 GND, C13 GND, C14 LA10_P, C15 LA10_N, C16 GND, C17 GND, C18 LA14_P, C19 LA14_N, C20 GND, C21 GND, C22 LA18_P_CC, C23 LA18_N_CC, C24 GND, C25 GND, C26 LA27_P, C27 LA27_N, C28 GND, C29 GND, C30 SCL, C31 SDA, C32 GND, C33 GND, C34 GA0, C35 12P0V, C36 GND, C37 12P0V, C38 GND, C39 3P3V, C40 GND
part B pins: D1 PG_C2M, D2 GND, D3 GND, D4 GBTCLK0_M2C_P, D5 GBTCLK0_M2C_N, D6 GND, D7 GND, D8 LA01_P_CC, D9 LA01_N_CC, D10 GND, D11 LA05_P, D12 LA05_N, D13 GND, D14 LA09_P, D15 LA09_N, D16 GND, D17 LA13_P, D18 LA13_N, D19 GND, D20 LA17_P_CC, D21 LA17_N_CC, D22 GND, D23 LA23_P, D24 LA23_N, D25 GND, D26 LA26_P, D27 LA26_N, D28 GND, D29 TCK, D30 TDI, D31 TDO, D32 3P3VAUX, D33 TMS, D34 TRST_L, D35 GA1, D36 3P3V, D37 GND, D38 3P3V, D39 GND, D40 3P3V
part C pins: G1 GND, G2 CLK1_M2C_P, G3 CLK1_M2C_N, G4 GND, G5 GND, G6 LA00_P_CC, G7 LA00_N_CC, G8 GND, G9 LA03_P, G10 LA03_N, G11 GND, G12 LA08_P, G13 LA08_N, G14 GND, G15 LA12_P, G16 LA12_N, G17 GND, G18 LA16_P, G19 LA16_N, G20 GND, G21 LA20_P, G22 LA20_N, G23 GND, G24 LA22_P, G25 LA22_N, G26 GND, G27 LA25_P, G28 LA25_N, G29 GND, G30 LA29_P, G31 LA29_N, G32 GND, G33 LA31_P, G34 LA31_N, G35 GND, G36 LA33_P, G37 LA33_N, G38 GND, G39 VADJ, G40 GND
part D pins: H1 VREF_A_M2C, H2 PRSNT_M2C_L, H3 GND, H4 CLK0_M2C_P, H5 CLK0_M2C_N, H6 GND, H7 LA02_P, H8 LA02_N, H9 GND, H10 LA04_P, H11 LA04_N, H12 GND, H13 LA07_P, H14 LA07_N, H15 GND, H16 LA11_P, H17 LA11_N, H18 GND, H19 LA15_P, H20 LA15_N, H21 GND, H22 LA19_P, H23 LA19_N, H24 GND, H25 LA21_P, H26 LA21_N, H27 GND, H28 LA24_P, H29 LA24_N, H30 GND, H31 LA28_P, H32 LA28_N, H33 GND, H34 LA30_P, H35 LA30_N, H36 GND, H37 LA32_P, H38 LA32_N, H39 GND, H40 VADJ

## CENR-14
designator XP?
CENTRONICS_14R
pins: 1, 2, 3, 4, 5, 6, 7, 8, 9, 10, 11, 12, 13, 14, C1 SH, C2 SH
text: Net; Pin

## CENR-36
designator XP?
CENTRONICS_36R
pins: 1, 2, 3, 4, 5, 6, 7, 8, 9, 10, 11, 12, 13, 14, 15, 16, 17, 18, 19, 20, 21, 22, 23, 24, 25, 26, 27, 28, 29, 30, 31, 32, 33, 34, 35, 36, C1 SH, C2 SH
text: Net; Pin

## CGA0603MLA
designator VD?, comment CGA0603MLA-18101E
Automotive MLA Series Varistor Bourns; Identifier: CGA0603MLA-18101E; Case: CAP0603; Manufacturer: Bourns; Part Number: CGA0603MLA-18101E; Operating Temperature: -55°C to 125°C; Price: 0; Value: CGA0603MLA-18101E
footprint CAP0603
pins: 1, 2

## CM_Choke
designator L?, comment CM Choke 90Ohm
2-Line Chip Style  Common Mode Chokes, TDK; Value: CM Choke 90Ohm
pins: 1, 2, 3, 4

## COAX_2
designator XW?, comment Value
Value: COAX Cables
pins: 1, 2, 3

## CON2_HEAD_POWER
designator XP?, comment MF-2MA
Minifit 2x1 Вилка на плату, шаг 4.2мм; ComponentName: MF-02MA; ComponentType: Разъем; Partnumber: MF-2MA; Value: MF-2MA
pins: 1, 2
text: Pin; Net

## CON2M_LEFT
designator XP?, comment WF-2
Вилка на плату, шаг 2.54мм; Value: WF-2
pins: 1, 2
text: Net; Pin

## CON2M_LEFT_BATT
designator XP?, comment CWF-2
Вилка на плату, шаг 2.54мм; Value: CWF-2
pins: 1, 2
text: Net; Pin

## CON3M_LEFT
designator XP?, comment 8EDGVC-5.0-04P
Вилка на плату разъемный прямой; Value: 8EDGVC-5.0-04P
pins: 1, 2, 3
text: Net; Pin

## CON4_HEAD_POWER
designator XP?, comment MF-4MA
Minifit 2x1 Вилка на плату, шаг 4.2мм; ComponentName: MF-04MA; ComponentType: Разъем; Partnumber: MF-4MA; Value: MF-4MA
pins: 1, 2, 3, 4
text: Pin; Net

## CON4_OZON
designator XP?, comment ComponentName
Клеммник разъемный прямой; Value: ComponentName
pins: 1, 2, 3, 4
text: Net; Pin

## CON4M_LEFT
designator XP?, comment 8EDGVC-5.0-04P
Клеммник разъемный прямой; Value: 8EDGVC-5.0-04P
pins: 1, 2, 3, 4
text: Net; Pin

## CON5M_LEFT
designator XP?, comment 8EDGVC-5.0-05P
Клеммник разъемный прямой; Value: 8EDGVC-5.0-05P
pins: 1, 2, 3, 4, 5
text: Net; Pin

## CON6M_JTAG
designator XP?, comment PLS-06
Клеммник разъемный прямой; Value: PLS-06
pins: 1, 2, 3, 4, 5, 6
text: Net; Pin

## CON6M_LEFT
designator XP?
Клеммник разъемный прямой
pins: 1, 2, 3, 4, 5, 6
text: Net; Pin

## CON6M_LEFT_1
designator XP?, comment MF-06MA
Клеммник разъемный прямой; Value: MF-06MA
pins: 1, 2, 3, 4, 5, 6
text: Net; Pin

## CON7M_LEFT
designator XP?, comment 8EDGVC-5.0-07P
Клеммник разъемный прямой; Value: 8EDGVC-5.0-07P
pins: 1, 2, 3, 4, 5, 6, 7
text: Net; Pin

## CON8F_LEFT
designator XP?, comment SFW8S-2STE1LF
Клеммник разъемный прямой; Value: SFW8S-2STE1LF
pins: 1, 2, 3, 4, 5, 6, 7, 8
text: Net; Pin

## CON8M_LEFT
designator XP?, comment 8EDGVC-5.0-04P
Клеммник разъемный прямой; Value: 8EDGVC-5.0-04P
pins: 1, 2, 3, 4, 5, 6, 7, 8
text: Net; Pin

## CON9_DBF
designator XP?, comment DRB-09FA
DB9 Connector Female; Value: DRB-09FA
pins: 1, 2, 3, 4, 5, 6, 7, 8, 9, SH
text: Net; Pin

## CON9_DBM
designator XP?, comment DRB-09MA
DB9 Connector Male; Value: DRB-09MA
pins: 1, 2, 3, 4, 5, 6, 7, 8, 9, SH
text: Net; Pin

## CON9M_LEFT
designator XP?, comment 8EDGVC-5.0-09P
Клеммник разъемный прямой; Value: 8EDGVC-5.0-09P
pins: 1, 2, 3, 4, 5, 6, 7, 8, 9
text: Net; Pin

## CON9M_RS232
designator XP?
pins: 1, 2, 3, 4, 5, 6, 7, 8, 9, 10, 11
text: Net; Pin

## CON9M_SATA7M
designator XP?, comment 67491-0020
Molex Molex SATA Connector; Value: 67491-0020
pins: 1, 2, 3, 4, 5, 6, 7, 8, 9
text: Net; Pin

## CON10F_LEFT
designator XP?, comment SFW10S-2STE1LF
Клеммник разъемный прямой; Value: SFW10S-2STE1LF
pins: 1, 2, 3, 4, 5, 6, 7, 8, 9, 10
text: Net; Pin

## CON10M_LEFT
designator XP?
Клеммник разъемный прямой
pins: 1, 2, 3, 4, 5, 6, 7, 8, 9, 10
text: Net; Pin

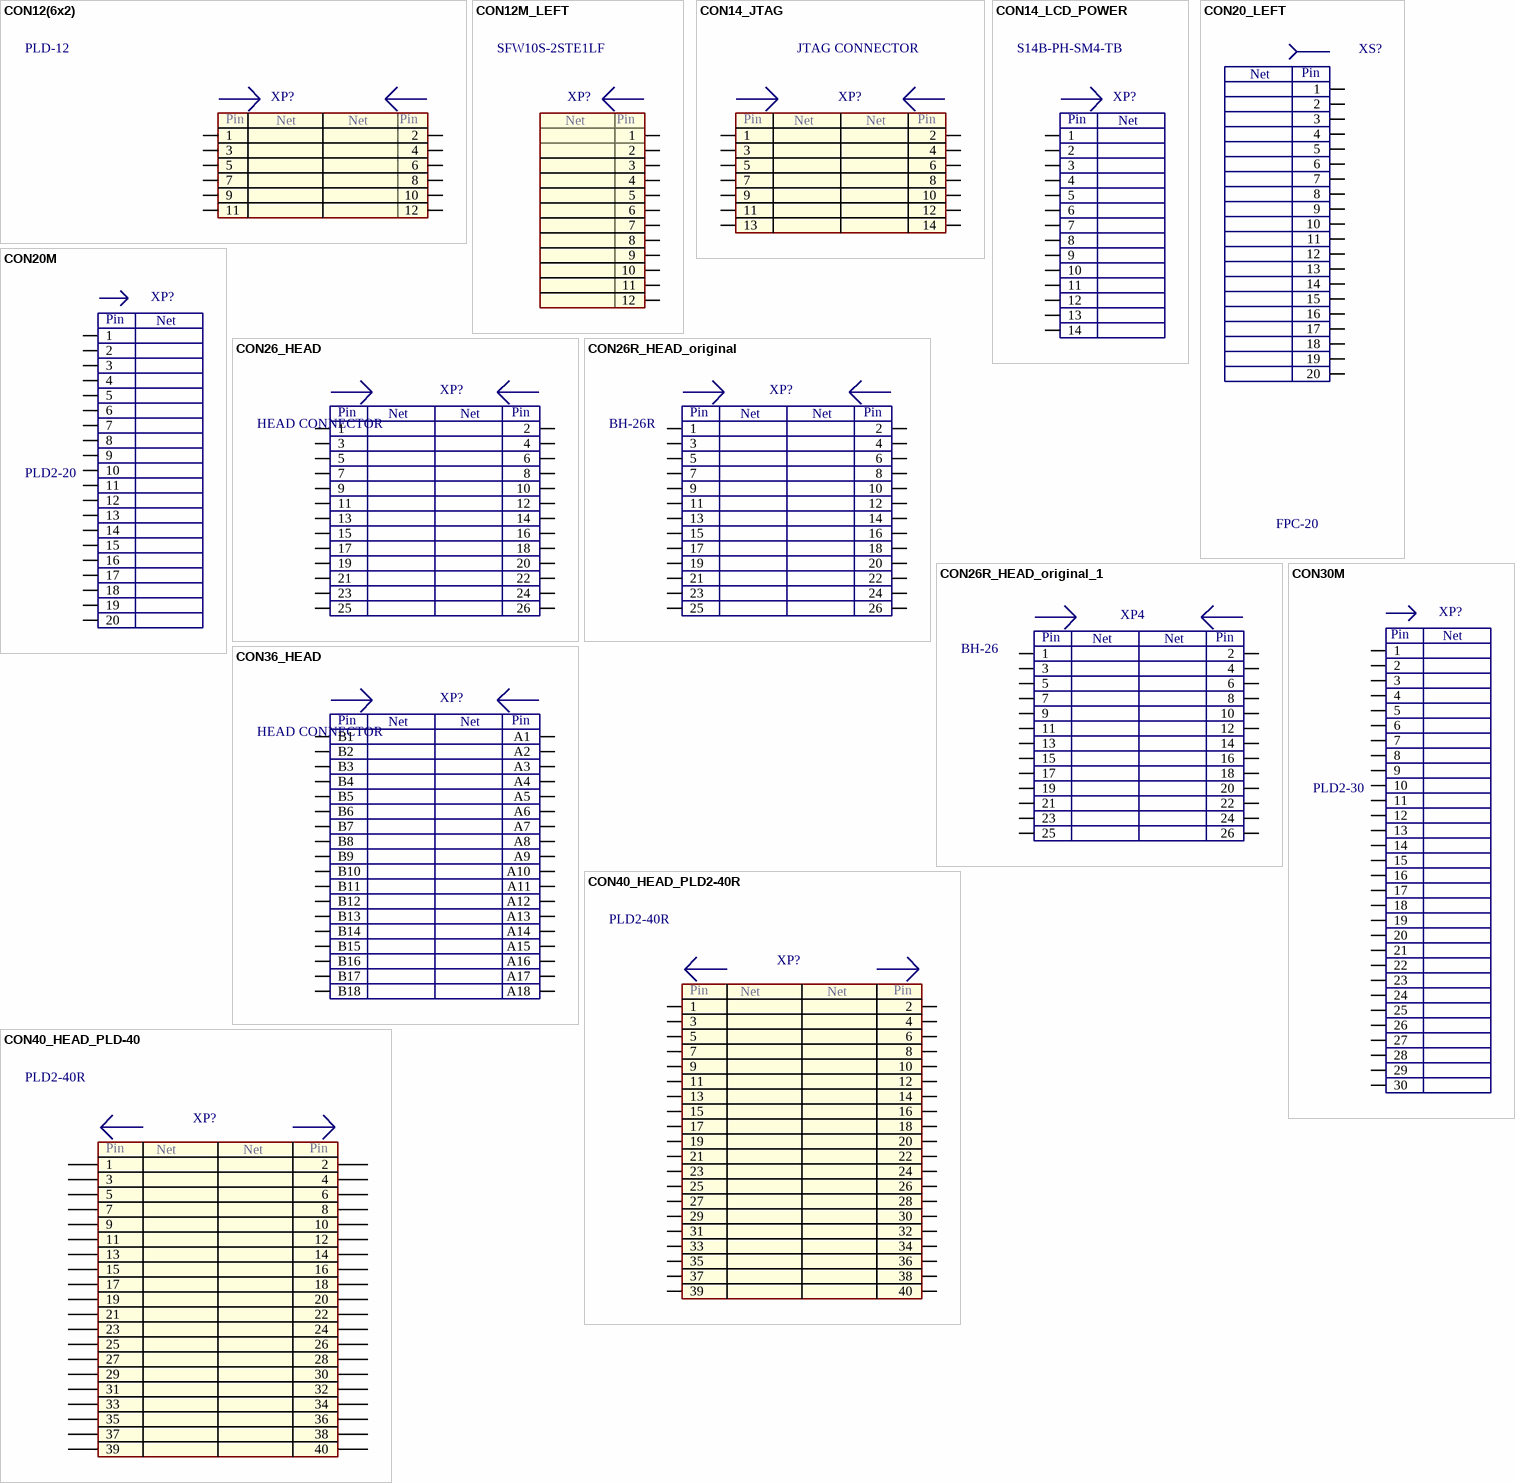
[diagram p6: symbols CON12(6x2) to CON40_HEAD_PLD-40]

## CON12(6x2)
designator XP?, comment PLD-12
Клеммник разъемный прямой; Value: PLD-12
pins: 1, 2, 3, 4, 5, 6, 7, 8, 9, 10, 11, 12
text: Net; Pin

## CON12M_LEFT
designator XP?, comment SFW10S-2STE1LF
Клеммник разъемный прямой; Value: SFW10S-2STE1LF
pins: 1, 2, 3, 4, 5, 6, 7, 8, 9, 10, 11, 12
text: Net; Pin

## CON14_JTAG
designator XP?, comment JTAG CONNECTOR
Клеммник разъемный прямой; Value: JTAG CONNECTOR
pins: 1, 2, 3, 4, 5, 6, 7, 8, 9, 10, 11, 12, 13, 14
text: Net; Pin

## CON14_LCD_POWER
designator XP?, comment S14B-PH-SM4-TB
разъем 14 контактов; Value: S14B-PH-SM4-TB
pins: 1, 2, 3, 4, 5, 6, 7, 8, 9, 10, 11, 12, 13, 14
text: Net; Pin

## CON20_LEFT
designator XS?, comment FPC-20
Разьем для плоских шлейфов. Гнездо на плату, угловое.; Value: FPC-20
pins: 1, 2, 3, 4, 5, 6, 7, 8, 9, 10, 11, 12, 13, 14, 15, 16, 17, 18, 19, 20
text: Net; Pin

## CON20M
designator XP?, comment PLD2-20
HDMI Receptacle Connector 19 Position Surface Mount Vertical; Value: PLD2-20
pins: 1, 2, 3, 4, 5, 6, 7, 8, 9, 10, 11, 12, 13, 14, 15, 16, 17, 18, 19, 20
text: Net; Pin

## CON26_HEAD
designator XP?, comment HEAD CONNECTOR
Клеммник разъемный прямой; Value: HEAD CONNECTOR
pins: 1, 2, 3, 4, 5, 6, 7, 8, 9, 10, 11, 12, 13, 14, 15, 16, 17, 18, 19, 20, 21, 22, 23, 24, 25, 26
text: Net; Pin

## CON26R_HEAD_original
designator XP?, comment BH-26R
Разъем; Value: BH-26R
footprint BH2-26
pins: 1, 2, 3, 4, 5, 6, 7, 8, 9, 10, 11, 12, 13, 14, 15, 16, 17, 18, 19, 20, 21, 22, 23, 24, 25, 26
text: Net; Pin

## CON26R_HEAD_original_1
designator XP4, comment BH-26
Разъем; Manufacturer: Китай; Part Number: BH-26 (DS1013-26S) (IDC-26MS); Identifier: CON26_HEAD-BH-26; Value: BH-26
footprint BH2-26
footprint BH-26
pins: 1, 2, 3, 4, 5, 6, 7, 8, 9, 10, 11, 12, 13, 14, 15, 16, 17, 18, 19, 20, 21, 22, 23, 24, 25, 26
text: Net; Pin

## CON30M
designator XP?, comment PLD2-30
HDMI Receptacle Connector 19 Position Surface Mount Vertical; Value: PLD2-30
pins: 1, 2, 3, 4, 5, 6, 7, 8, 9, 10, 11, 12, 13, 14, 15, 16, 17, 18, 19, 20, 21, 22, 23, 24, 25, 26, 27, 28, 29, 30
text: Net; Pin

## CON36_HEAD
designator XP?, comment HEAD CONNECTOR
Разъем PCIe для подключния драйвера голов; Value: HEAD CONNECTOR
pins: A1, A2, A3, A4, A5, A6, A7, A8, A9, A10, A11, A12, A13, A14, A15, A16, A17, A18, B1, B2, B3, B4, B5, B6, B7, B8, B9, B10, B11, B12, B13, B14, B15, B16, B17, B18
text: Net; Pin

## CON40_HEAD_PLD2-40R
designator XP?, comment PLD2-40R
Разъем PLD2-40R для драйвера головки; Value: PLD2-40R
pins: 1, 2, 3, 4, 5, 6, 7, 8, 9, 10, 11, 12, 13, 14, 15, 16, 17, 18, 19, 20, 21, 22, 23, 24, 25, 26, 27, 28, 29, 30, 31, 32, 33, 34, 35, 36, 37, 38, 39, 40
text: Net; Pin

## CON40_HEAD_PLD-40
designator XP?, comment PLD2-40R
Разъем PLD2-40R для драйвера головки; Value: PLD2-40R
pins: 1, 2, 3, 4, 5, 6, 7, 8, 9, 10, 11, 12, 13, 14, 15, 16, 17, 18, 19, 20, 21, 22, 23, 24, 25, 26, 27, 28, 29, 30, 31, 32, 33, 34, 35, 36, 37, 38, 39, 40
text: Net; Pin

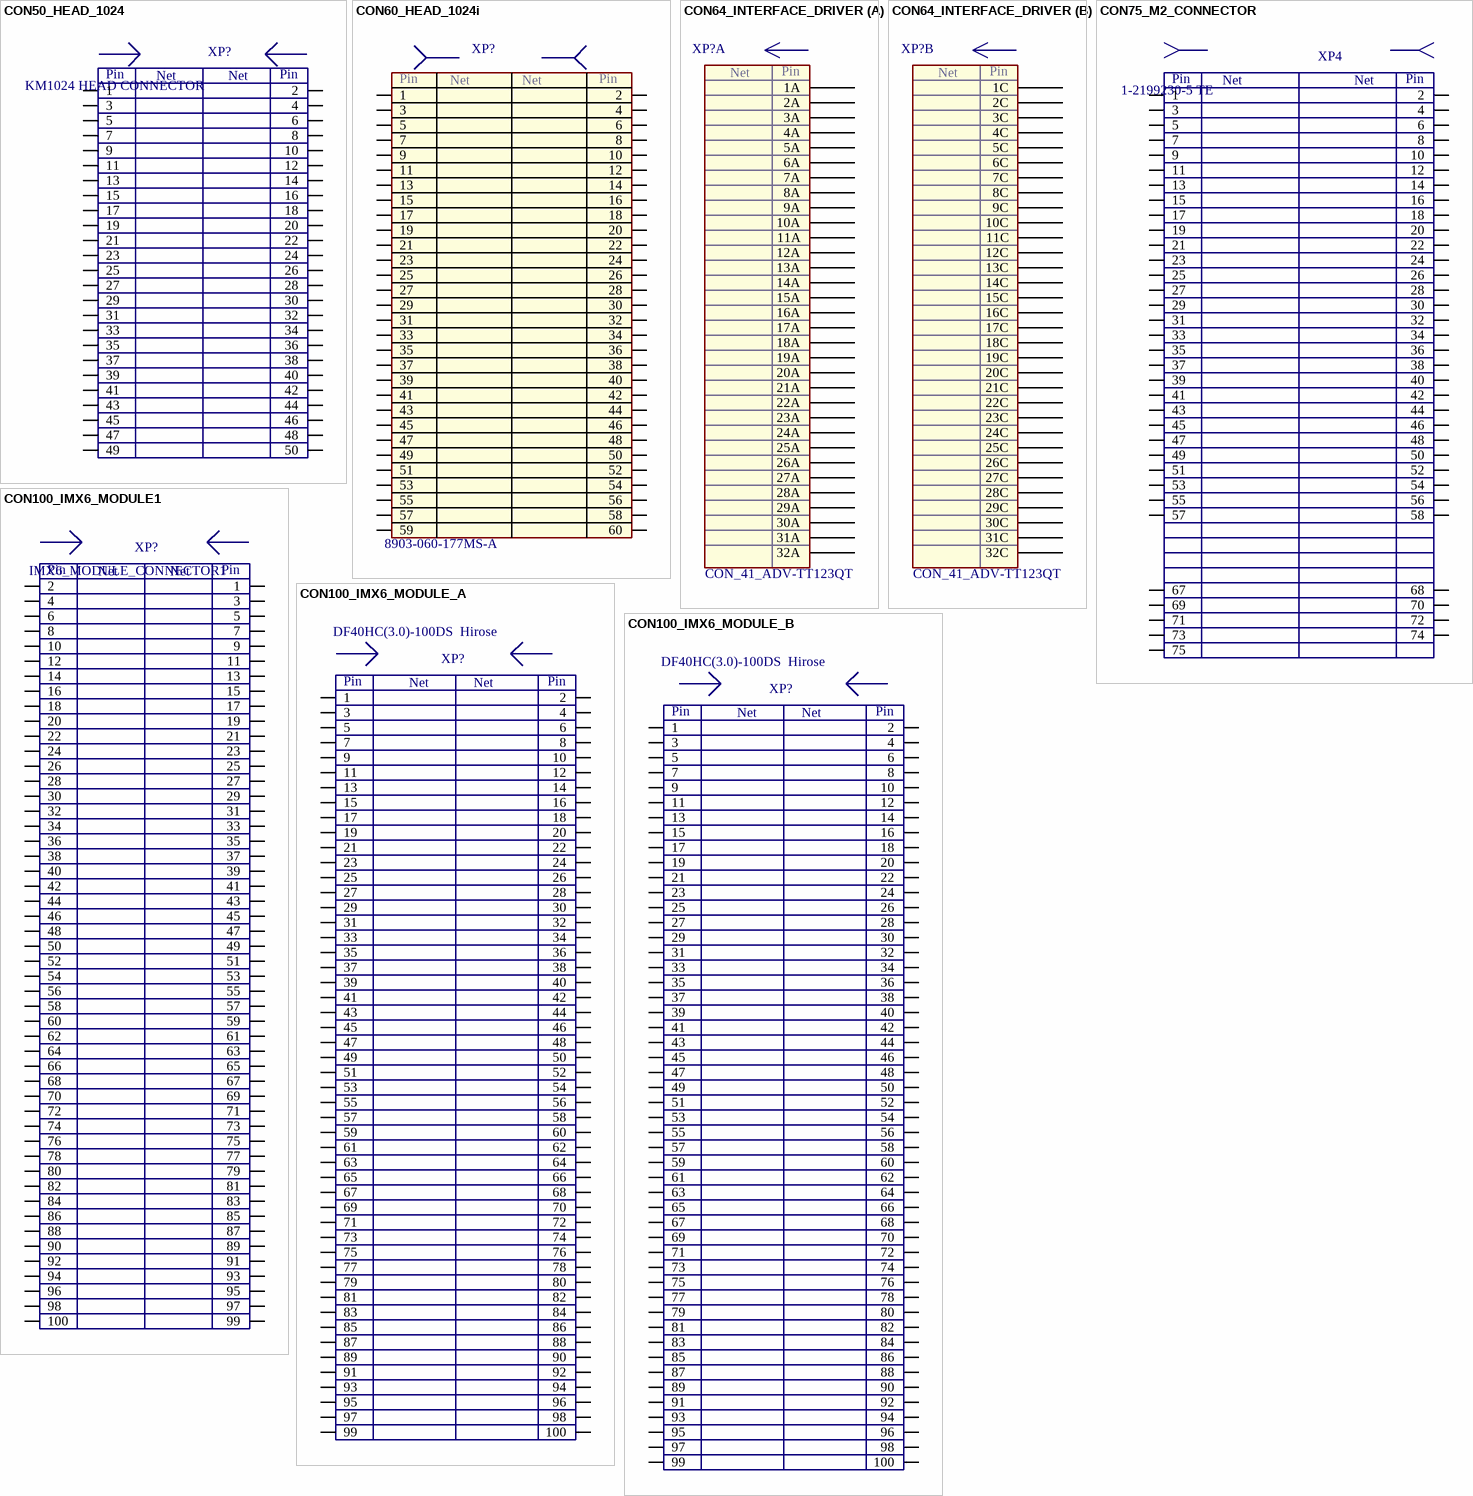
[diagram p7: symbols CON50_HEAD_1024 to CON100_IMX6_MODULE_B]

## CON50_HEAD_1024
designator XP?, comment KM1024 HEAD CONNECTOR
Разъем 8931E-050-178L-F угловой для голов KM1024(512i); Value: KM1024 HEAD CONNECTOR
footprint 8931E-050-178L-F (LOW PROFILE IDC CONNECTOR Right angle, Through hole)
pins: 1, 2, 3, 4, 5, 6, 7, 8, 9, 10, 11, 12, 13, 14, 15, 16, 17, 18, 19, 20, 21, 22, 23, 24, 25, 26, 27, 28, 29, 30, 31, 32, 33, 34, 35, 36, 37, 38, 39, 40, 41, 42, 43, 44, 45, 46, 47, 48, 49, 50
text: Net; Pin

## CON60_HEAD_1024i
designator XP?, comment 8903-060-177MS-A
Разъем 8903-060-177MS-A  для голов KM1024i- втыкается  в разъем на головке SMD вертикальный разъем на печатную плату для драйвера головки; Value: 8903-060-177MS-A
pins: 1, 2, 3, 4, 5, 6, 7, 8, 9, 10, 11, 12, 13, 14, 15, 16, 17, 18, 19, 20, 21, 22, 23, 24, 25, 26, 27, 28, 29, 30, 31, 32, 33, 34, 35, 36, 37, 38, 39, 40, 41, 42, 43, 44, 45, 46, 47, 48, 49, 50, 51, 52, 53, 54, 55, 56, 57, 58, 59, 60
text: Net; Pin

## CON64_INTERFACE_DRIVER
designator XP?, comment CON_41_ADV-TT123QT
DIN 41612 C Type Male_Right Angle 64 pin 9001-11641C00A; Value: CON_41_ADV-TT123QT
part A pins: 1A, 2A, 3A, 4A, 5A, 6A, 7A, 8A, 9A, 10A, 11A, 12A, 13A, 14A, 15A, 16A, 17A, 18A, 19A, 20A, 21A, 22A, 23A, 24A, 25A, 26A, 27A, 28A, 29A, 30A, 31A, 32A
part B pins: 1C, 2C, 3C, 4C, 5C, 6C, 7C, 8C, 9C, 10C, 11C, 12C, 13C, 14C, 15C, 16C, 17C, 18C, 19C, 20C, 21C, 22C, 23C, 24C, 25C, 26C, 27C, 28C, 29C, 30C, 31C, 32C
part A text: Net; Pin
part B text: Net; Pin

## CON75_M2_CONNECTOR
designator XP4, comment 1-2199230-5 TE
Разъем M.2 0.5PITCH 4.2H KEY M 15U'' AU; Manufacturer: TE Connectivity; Identifier: 1-2199230-5 TE (M.2); Part Number: 1-2199230-5; HelpURL: D:\_DS\1-2199230-5.pdf; Value: 1-2199230-5 TE
footprint 1-2199230-5 TE (M.2)
pins: 1, 2, 3, 4, 5, 6, 7, 8, 9, 10, 11, 12, 13, 14, 15, 16, 17, 18, 19, 20, 21, 22, 23, 24, 25, 26, 27, 28, 29, 30, 31, 32, 33, 34, 35, 36, 37, 38, 39, 40, 41, 42, 43, 44, 45, 46, 47, 48, 49, 50, 51, 52, 53, 54, 55, 56, 57, 58, 67, 68, 69, 70, 71, 72, 73, 74, 75
text: Net; Pin

## CON100_IMX6_MODULE1
designator XP?, comment IMX6_MODULE_CONNECTOR1
разъем; Value: IMX6_MODULE_CONNECTOR1
pins: 1, 2, 3, 4, 5, 6, 7, 8, 9, 10, 11, 12, 13, 14, 15, 16, 17, 18, 19, 20, 21, 22, 23, 24, 25, 26, 27, 28, 29, 30, 31, 32, 33, 34, 35, 36, 37, 38, 39, 40, 41, 42, 43, 44, 45, 46, 47, 48, 49, 50, 51, 52, 53, 54, 55, 56, 57, 58, 59, 60, 61, 62, 63, 64, 65, 66, 67, 68, 69, 70, 71, 72, 73, 74, 75, 76, 77, 78, 79, 80, 81, 82, 83, 84, 85, 86, 87, 88, 89, 90, 91, 92, 93, 94, 95, 96, 97, 98, 99, 100
text: Net; Pin

## CON100_IMX6_MODULE_A
designator XP?, comment DF40HC(3.0)-100DS  Hirose
Разъем DF40C-100DP-0.4V(51) Hirose; Part Number: DF40HC(3.0)-100DS-0.4V(51); Identifier: DF40HC(3.0)-100DS  Hirose; Manufacturer: Hirose; Operating Temperature: -35 to 85 °C; HelpURL: D:\_DS\_Hirose\DF40_catalog.pdf#page=6; Value: DF40HC(3.0)-100DS  Hirose
footprint DF40HC(3.0)-100DS
pins: 1, 2, 3, 4, 5, 6, 7, 8, 9, 10, 11, 12, 13, 14, 15, 16, 17, 18, 19, 20, 21, 22, 23, 24, 25, 26, 27, 28, 29, 30, 31, 32, 33, 34, 35, 36, 37, 38, 39, 40, 41, 42, 43, 44, 45, 46, 47, 48, 49, 50, 51, 52, 53, 54, 55, 56, 57, 58, 59, 60, 61, 62, 63, 64, 65, 66, 67, 68, 69, 70, 71, 72, 73, 74, 75, 76, 77, 78, 79, 80, 81, 82, 83, 84, 85, 86, 87, 88, 89, 90, 91, 92, 93, 94, 95, 96, 97, 98, 99, 100
text: Net; Pin

## CON100_IMX6_MODULE_B
designator XP?, comment DF40HC(3.0)-100DS  Hirose
Разъем DF40C-100DP-0.4V(51) Hirose; Part Number: DF40HC(3.0)-100DS-0.4V(51); Identifier: DF40HC(3.0)-100DS  Hirose; Manufacturer: Hirose; Operating Temperature: -35 to 85 °C; HelpURL: D:\_DS\_Hirose\DF40_catalog.pdf#page=6; Value: DF40HC(3.0)-100DS  Hirose
footprint DF40HC(3.0)-100DS
pins: 1, 2, 3, 4, 5, 6, 7, 8, 9, 10, 11, 12, 13, 14, 15, 16, 17, 18, 19, 20, 21, 22, 23, 24, 25, 26, 27, 28, 29, 30, 31, 32, 33, 34, 35, 36, 37, 38, 39, 40, 41, 42, 43, 44, 45, 46, 47, 48, 49, 50, 51, 52, 53, 54, 55, 56, 57, 58, 59, 60, 61, 62, 63, 64, 65, 66, 67, 68, 69, 70, 71, 72, 73, 74, 75, 76, 77, 78, 79, 80, 81, 82, 83, 84, 85, 86, 87, 88, 89, 90, 91, 92, 93, 94, 95, 96, 97, 98, 99, 100
text: Net; Pin

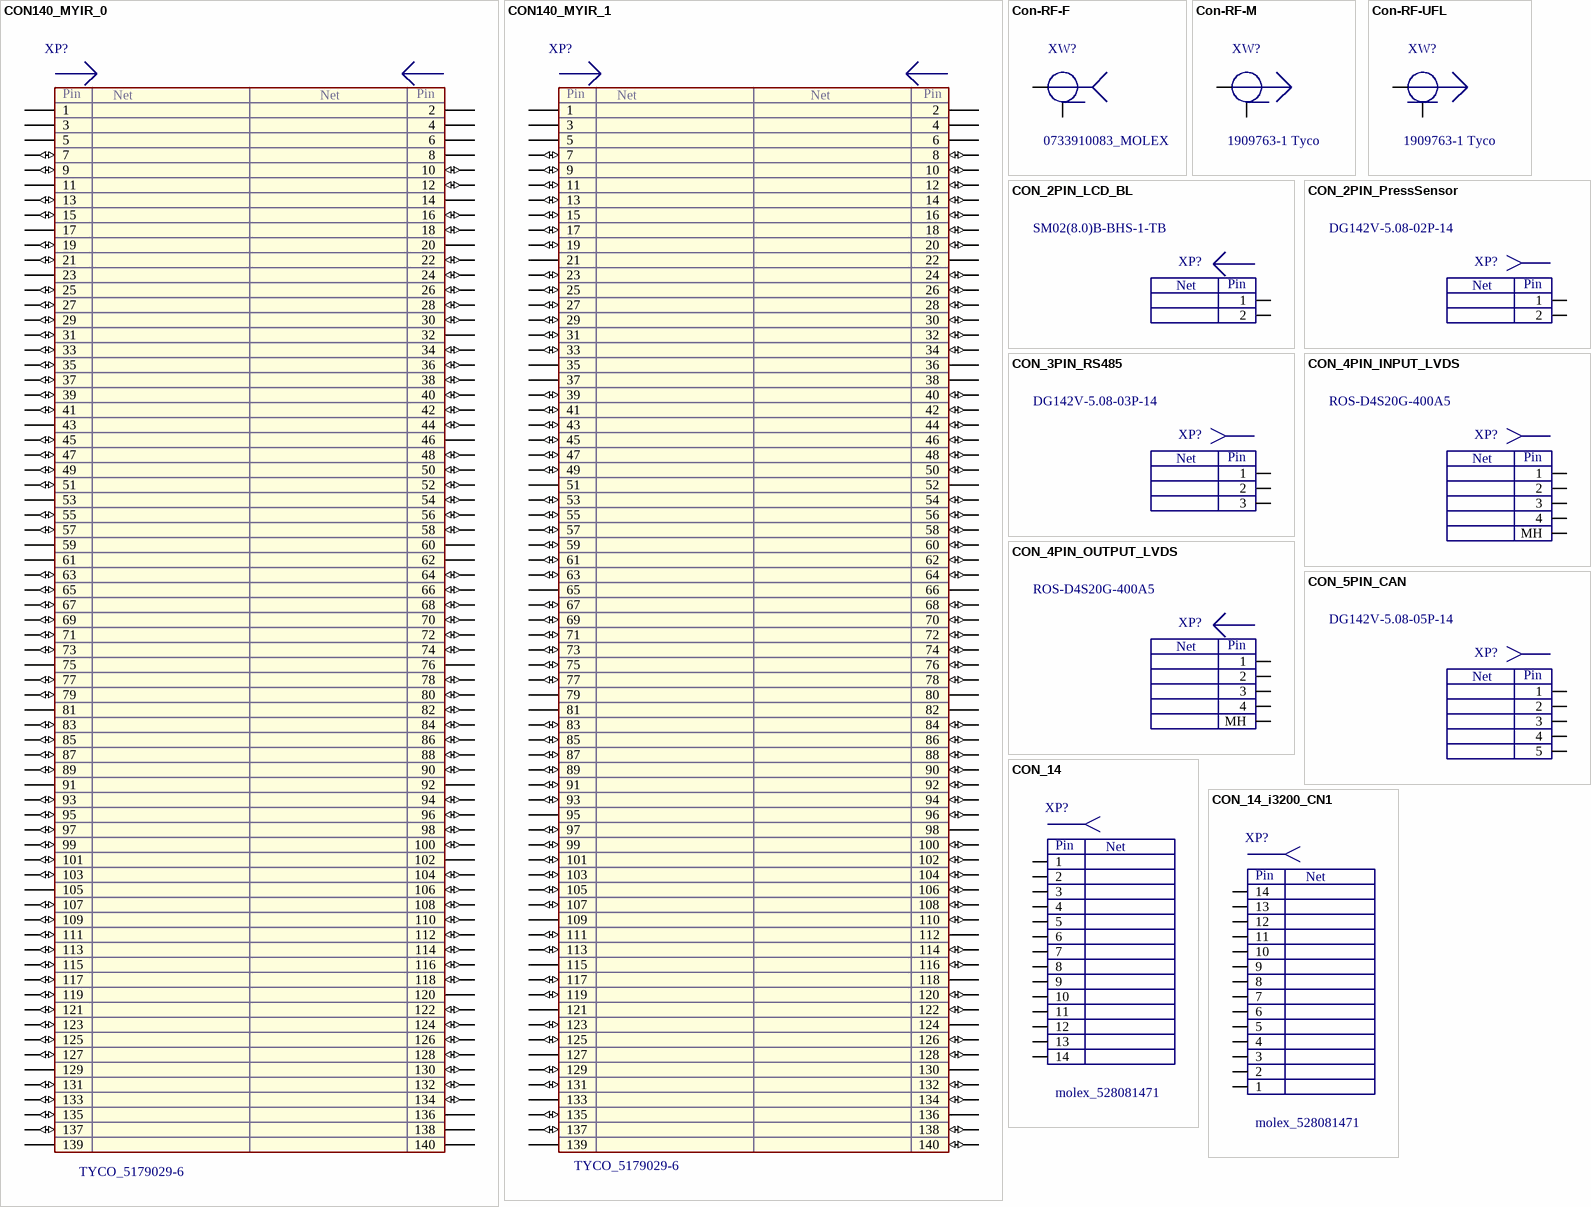
[diagram p8: symbols CON140_MYIR_0 to CON_14_i3200_CN1]

## CON140_MYIR_0
designator XP?, comment TYCO_5179029-6
Value: TYCO_5179029-6
pins: 1 (power), 2 (power), 3 (power), 4 (power), 5 (power), 6 (power), 7 (io), 8 (power), 9 (io), 10 (io), 11 (power), 12 (io), 13 (io), 14 (power), 15 (io), 16 (io), 17 (power), 18 (io), 19 (io), 20 (power), 21 (io), 22 (io), 23 (power), 24 (io), 25 (io), 26 (io), 27 (io), 28 (io), 29 (io), 30 (io), 31 (io), 32 (power), 33 (io), 34 (io), 35 (io), 36 (io), 37 (io), 38 (io), 39 (io), 40 (io), 41 (io), 42 (io), 43 (power), 44 (io), 45 (io), 46 (power), 47 (io), 48 (io), 49 (io), 50 (io), 51 (io), 52 (io), 53 (power), 54 (io), 55 (io), 56 (io), 57 (io), 58 (io), 59 (power), 60 (power), 61 (power), 62 (power), 63 (io), 64 (io), 65 (io), 66 (io), 67 (io), 68 (io), 69 (io), 70 (io), 71 (io), 72 (io), 73 (io), 74 (io), 75 (power), 76 (power), 77 (io), 78 (io), 79 (io), 80 (io), 81 (power), 82 (io), 83 (io), 84 (io), 85 (io), 86 (io), 87 (io), 88 (io), 89 (io), 90 (io), 91 (power), 92 (power), 93 (io), 94 (io), 95 (io), 96 (io), 97 (io), 98 (io), 99 (io), 100 (io), 101 (io), 102 (power), 103 (io), 104 (io), 105 (power), 106 (io), 107 (io), 108 (io), 109 (io), 110 (io), 111 (io), 112 (io), 113 (io), 114 (io), 115 (io), 116 (io), 117 (io), 118 (io), 119 (io), 120 (power), 121 (io), 122 (io), 123 (io), 124 (io), 125 (io), 126 (io), 127 (io), 128 (io), 129 (power), 130 (io), 131 (io), 132 (io), 133 (io), 134 (io), 135 (io), 136 (power), 137 (io), 138 (power), 139 (power), 140 (power)
text: Net; Pin

## CON140_MYIR_1
designator XP?, comment TYCO_5179029-6
Value: TYCO_5179029-6
pins: 1 (power), 2 (power), 3 (power), 4 (power), 5 (power), 6 (power), 7 (io), 8 (io), 9 (io), 10 (io), 11 (io), 12 (io), 13 (io), 14 (io), 15 (io), 16 (io), 17 (io), 18 (io), 19 (io), 20 (io), 21 (power), 22 (power), 23 (io), 24 (io), 25 (io), 26 (io), 27 (io), 28 (io), 29 (io), 30 (io), 31 (io), 32 (io), 33 (io), 34 (io), 35 (power), 36 (power), 37 (power), 38 (power), 39 (io), 40 (io), 41 (io), 42 (io), 43 (io), 44 (io), 45 (io), 46 (io), 47 (io), 48 (io), 49 (io), 50 (io), 51 (power), 52 (power), 53 (io), 54 (io), 55 (io), 56 (io), 57 (io), 58 (io), 59 (io), 60 (io), 61 (io), 62 (io), 63 (io), 64 (io), 65 (power), 66 (power), 67 (io), 68 (io), 69 (io), 70 (io), 71 (io), 72 (io), 73 (io), 74 (io), 75 (io), 76 (io), 77 (io), 78 (io), 79 (power), 80 (power), 81 (power), 82 (power), 83 (io), 84 (io), 85 (io), 86 (io), 87 (io), 88 (io), 89 (io), 90 (io), 91 (io), 92 (io), 93 (io), 94 (io), 95 (power), 96 (io), 97 (io), 98 (power), 99 (io), 100 (io), 101 (io), 102 (io), 103 (io), 104 (io), 105 (io), 106 (io), 107 (io), 108 (io), 109 (power), 110 (io), 111 (io), 112 (power), 113 (io), 114 (io), 115 (power), 116 (io), 117 (io), 118 (power), 119 (io), 120 (io), 121 (power), 122 (io), 123 (io), 124 (power), 125 (io), 126 (io), 127 (power), 128 (io), 129 (io), 130 (power), 131 (io), 132 (io), 133 (power), 134 (io), 135 (io), 136 (power), 137 (io), 138 (io), 139 (power), 140 (io)
text: Net; Pin

## Con-RF-F
designator XW?, comment 0733910083_MOLEX
Value: 0733910083_MOLEX
pins: 1, 2

## Con-RF-M
designator XW?, comment 1909763-1 Tyco
Value: 1909763-1 Tyco
pins: 1, 2

## Con-RF-UFL
designator XW?, comment 1909763-1 Tyco
Value: 1909763-1 Tyco
pins: 1, 2

## CON_2PIN_LCD_BL
designator XP?, comment SM02(8.0)B-BHS-1-TB
2-pin LCD Back light; Value: SM02(8.0)B-BHS-1-TB
pins: 1, 2
text: Net; Pin

## CON_2PIN_PressSensor
designator XP?, comment DG142V-5.08-02P-14
2-pin pressure sensor; Value: DG142V-5.08-02P-14
pins: 1, 2
text: Net; Pin

## CON_3PIN_RS485
designator XP?, comment DG142V-5.08-03P-14
LVDS 4-pin HSD Connector Rosenberger; Value: DG142V-5.08-03P-14
pins: 1, 2, 3
text: Net; Pin

## CON_4PIN_INPUT_LVDS
designator XP?, comment ROS-D4S20G-400A5
LVDS 4-pin HSD Connector Rosenberger; Value: ROS-D4S20G-400A5
pins: 1, 2, 3, 4, MH
text: Net; Pin

## CON_4PIN_OUTPUT_LVDS
designator XP?, comment ROS-D4S20G-400A5
LVDS 4-pin HSD Connector Rosenberger; Value: ROS-D4S20G-400A5
pins: 1, 2, 3, 4, MH
text: Net; Pin

## CON_5PIN_CAN
designator XP?, comment DG142V-5.08-05P-14
LVDS 4-pin HSD Connector Rosenberger; Value: DG142V-5.08-05P-14
pins: 1, 2, 3, 4, 5
text: Net; Pin

## CON_14
designator XP?, comment molex_528081471
Разъем модуля FM приемника; Value: molex_528081471
pins: 1, 2, 3, 4, 5, 6, 7, 8, 9, 10, 11, 12, 13, 14, 21 hidden, 22 hidden
text: Net; Pin

## CON_14_i3200_CN1
designator XP?, comment molex_528081471
Разъем модуля FM приемника; Value: molex_528081471
pins: 1, 2, 3, 4, 5, 6, 7, 8, 9, 10, 11, 12, 13, 14, 21 hidden, 22 hidden
text: Net; Pin

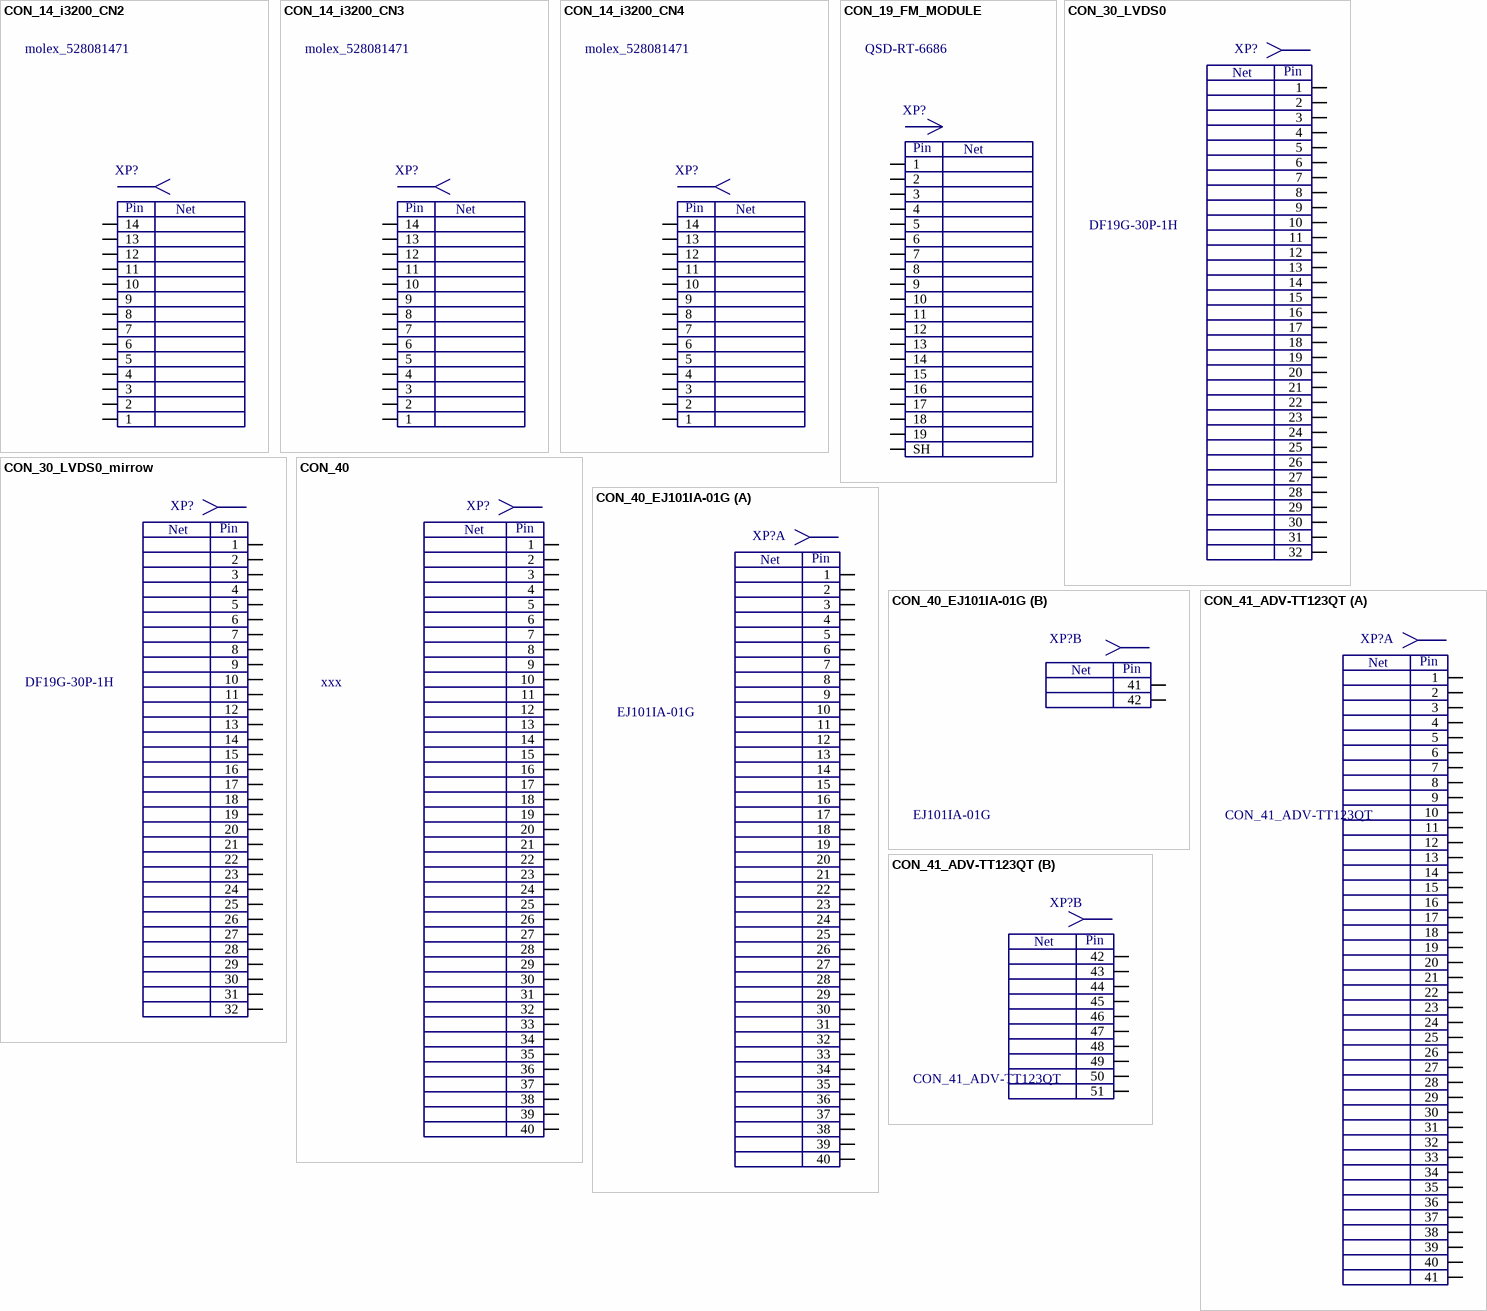
[diagram p9: symbols CON_14_i3200_CN2 to CON_41_ADV-TT123QT]

## CON_14_i3200_CN2
designator XP?, comment molex_528081471
Разъем модуля FM приемника; Value: molex_528081471
pins: 1, 2, 3, 4, 5, 6, 7, 8, 9, 10, 11, 12, 13, 14, 21 hidden, 22 hidden
text: Net; Pin

## CON_14_i3200_CN3
designator XP?, comment molex_528081471
Разъем модуля FM приемника; Value: molex_528081471
pins: 1, 2, 3, 4, 5, 6, 7, 8, 9, 10, 11, 12, 13, 14, 21 hidden, 22 hidden
text: Net; Pin

## CON_14_i3200_CN4
designator XP?, comment molex_528081471
Разъем модуля FM приемника; Value: molex_528081471
pins: 1, 2, 3, 4, 5, 6, 7, 8, 9, 10, 11, 12, 13, 14, 21 hidden, 22 hidden
text: Net; Pin

## CON_19_FM_MODULE
designator XP?, comment QSD-RT-6686
Разъем модуля FM приемника; Value: QSD-RT-6686
pins: 0 SH, 1, 2, 3, 4, 5, 6, 7, 8, 9, 10, 11, 12, 13, 14, 15, 16, 17, 18, 19, 21 hidden, 22 hidden
text: Net; Pin

## CON_30_LVDS0
designator XP?, comment DF19G-30P-1H
HDMI Receptacle Connector 19 Position Surface Mount Vertical; Value: DF19G-30P-1H
pins: 1, 2, 3, 4, 5, 6, 7, 8, 9, 10, 11, 12, 13, 14, 15, 16, 17, 18, 19, 20, 21, 22, 23, 24, 25, 26, 27, 28, 29, 30, 31, 32
text: Net; Pin

## CON_30_LVDS0_mirrow
designator XP?, comment DF19G-30P-1H
HDMI Receptacle Connector 19 Position Surface Mount Vertical; Value: DF19G-30P-1H
pins: 1, 2, 3, 4, 5, 6, 7, 8, 9, 10, 11, 12, 13, 14, 15, 16, 17, 18, 19, 20, 21, 22, 23, 24, 25, 26, 27, 28, 29, 30, 31, 32
text: Net; Pin

## CON_40
designator XP?, comment xxx
LVDS Connector 40 Position Surface Mount; Value: xxx
pins: 1, 2, 3, 4, 5, 6, 7, 8, 9, 10, 11, 12, 13, 14, 15, 16, 17, 18, 19, 20, 21, 22, 23, 24, 25, 26, 27, 28, 29, 30, 31, 32, 33, 34, 35, 36, 37, 38, 39, 40, 41 hidden to GND, 42 hidden to GND
text: Net; Pin

## CON_40_EJ101IA-01G
designator XP?, comment EJ101IA-01G
LVDS Connector 41 Position Surface Mount; Value: EJ101IA-01G
part A pins: 1, 2, 3, 4, 5, 6, 7, 8, 9, 10, 11, 12, 13, 14, 15, 16, 17, 18, 19, 20, 21, 22, 23, 24, 25, 26, 27, 28, 29, 30, 31, 32, 33, 34, 35, 36, 37, 38, 39, 40
part B pins: S1 41, S2 42
part A text: Net; Pin
part B text: Net; Pin

## CON_41_ADV-TT123QT
designator XP?
LVDS Connector 41 Position Surface Mount; Value: CON_41_ADV-TT123QT
part A pins: 1, 2, 3, 4, 5, 6, 7, 8, 9, 10, 11, 12, 13, 14, 15, 16, 17, 18, 19, 20, 21, 22, 23, 24, 25, 26, 27, 28, 29, 30, 31, 32, 33, 34, 35, 36, 37, 38, 39, 40, 41
part B pins: 42, 43, 44, 45, 46, 47, 48, 49, 50, 51
part A text: Net; Pin
part B text: Net; Pin

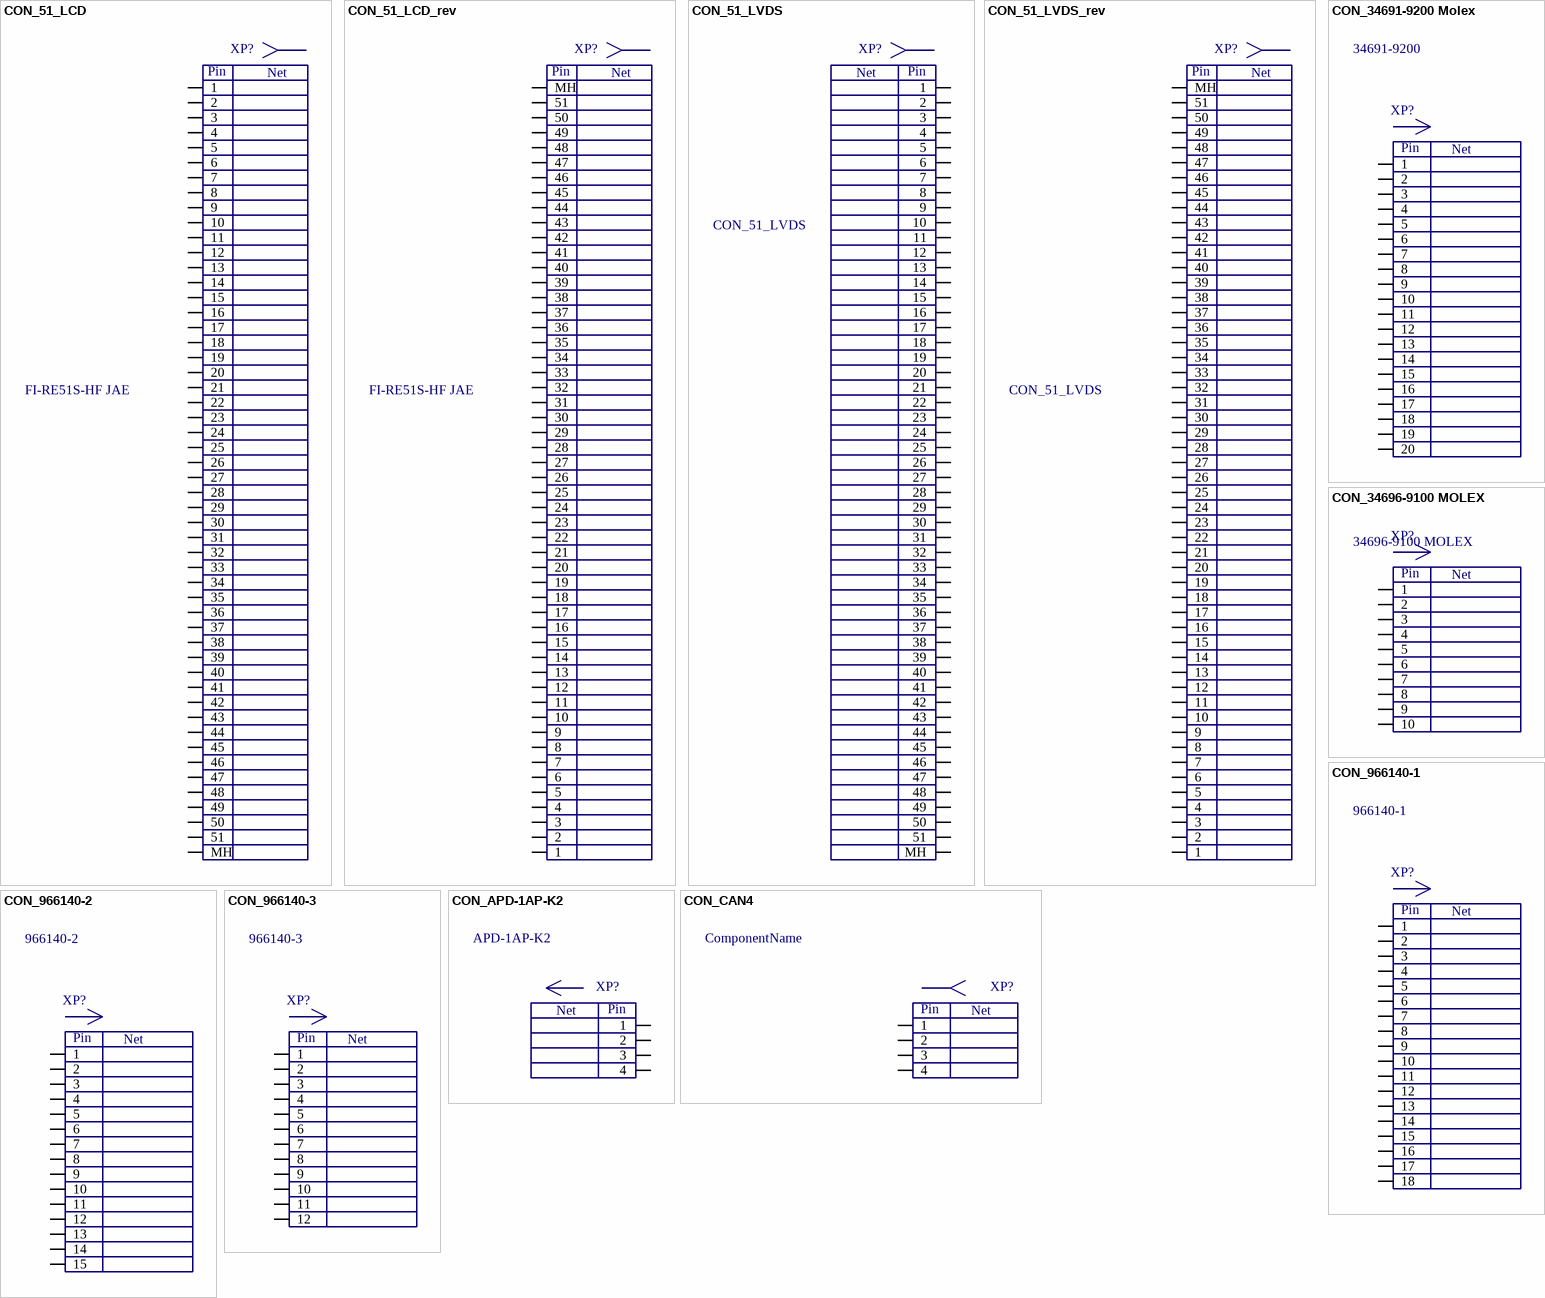
[diagram p10: symbols CON_51_LCD to CON_CAN4]

## CON_51_LCD
designator XP?, comment FI-RE51S-HF JAE
LCD 2xLVDS Connector 51 Position Surface Mount; Value: FI-RE51S-HF JAE
pins: 1, 2, 3, 4, 5, 6, 7, 8, 9, 10, 11, 12, 13, 14, 15, 16, 17, 18, 19, 20, 21, 22, 23, 24, 25, 26, 27, 28, 29, 30, 31, 32, 33, 34, 35, 36, 37, 38, 39, 40, 41, 42, 43, 44, 45, 46, 47, 48, 49, 50, 51, MH
text: Net; Pin

## CON_51_LCD_rev
designator XP?, comment FI-RE51S-HF JAE
LCD 2xLVDS Connector 51 Position Surface Mount; Value: FI-RE51S-HF JAE
pins: 1, 2, 3, 4, 5, 6, 7, 8, 9, 10, 11, 12, 13, 14, 15, 16, 17, 18, 19, 20, 21, 22, 23, 24, 25, 26, 27, 28, 29, 30, 31, 32, 33, 34, 35, 36, 37, 38, 39, 40, 41, 42, 43, 44, 45, 46, 47, 48, 49, 50, 51, MH
text: Net; Pin

## CON_51_LVDS
designator XP?
LVDS Connector 51 Position Surface Mount; Value: CON_51_LVDS
pins: 1, 2, 3, 4, 5, 6, 7, 8, 9, 10, 11, 12, 13, 14, 15, 16, 17, 18, 19, 20, 21, 22, 23, 24, 25, 26, 27, 28, 29, 30, 31, 32, 33, 34, 35, 36, 37, 38, 39, 40, 41, 42, 43, 44, 45, 46, 47, 48, 49, 50, 51, MH
text: Net; Pin

## CON_51_LVDS_rev
designator XP?, comment CON_51_LVDS
LVDS Connector 51 Position Surface Mount; Value: CON_51_LVDS
pins: 1, 2, 3, 4, 5, 6, 7, 8, 9, 10, 11, 12, 13, 14, 15, 16, 17, 18, 19, 20, 21, 22, 23, 24, 25, 26, 27, 28, 29, 30, 31, 32, 33, 34, 35, 36, 37, 38, 39, 40, 41, 42, 43, 44, 45, 46, 47, 48, 49, 50, 51, MH
text: Net; Pin

## CON_34691-9200 Molex
designator XP?, comment 34691-9200
Разъем автомобильный угловой 34691-9200 Molex; Value: 34691-9200
pins: 1, 2, 3, 4, 5, 6, 7, 8, 9, 10, 11, 12, 13, 14, 15, 16, 17, 18, 19, 20, 21 hidden, 22 hidden
text: Net; Pin

## CON_34696-9100 MOLEX
designator XP?, comment 34696-9100 MOLEX
Разъем автомобильный угловой 34696-9100 MOLEX; Value: 34696-9100 MOLEX
pins: 1, 2, 3, 4, 5, 6, 7, 8, 9, 10, 21 hidden, 22 hidden
text: Net; Pin

## CON_966140-1
designator XP?, comment 966140-1
Разъем автомобильный угловой 966140-1 Molex 18 Pin; Value: 966140-1
pins: 1, 2, 3, 4, 5, 6, 7, 8, 9, 10, 11, 12, 13, 14, 15, 16, 17, 18
text: Net; Pin

## CON_966140-2
designator XP?, comment 966140-2
Разъем автомобильный угловой 966140-2 Molex 15 Pin; Value: 966140-2
pins: 1, 2, 3, 4, 5, 6, 7, 8, 9, 10, 11, 12, 13, 14, 15
text: Net; Pin

## CON_966140-3
designator XP?, comment 966140-3
Разъем автомобильный угловой 966140-3 Molex 12 Pin; Value: 966140-3
pins: 1, 2, 3, 4, 5, 6, 7, 8, 9, 10, 11, 12
text: Net; Pin

## CON_APD-1AP-K2
designator XP?, comment APD-1AP-K2  (mechanical)
Connector APD-1AP-K2; Value: APD-1AP-K2
pins: 1A 1, 2A 2, 3A 3, 3A 4
text: Net; Pin

## CON_CAN4
designator XP?, comment ComponentName
Клеммник разъемный прямой; Value: ComponentName
pins: 1, 2, 3, 4
text: Net; Pin

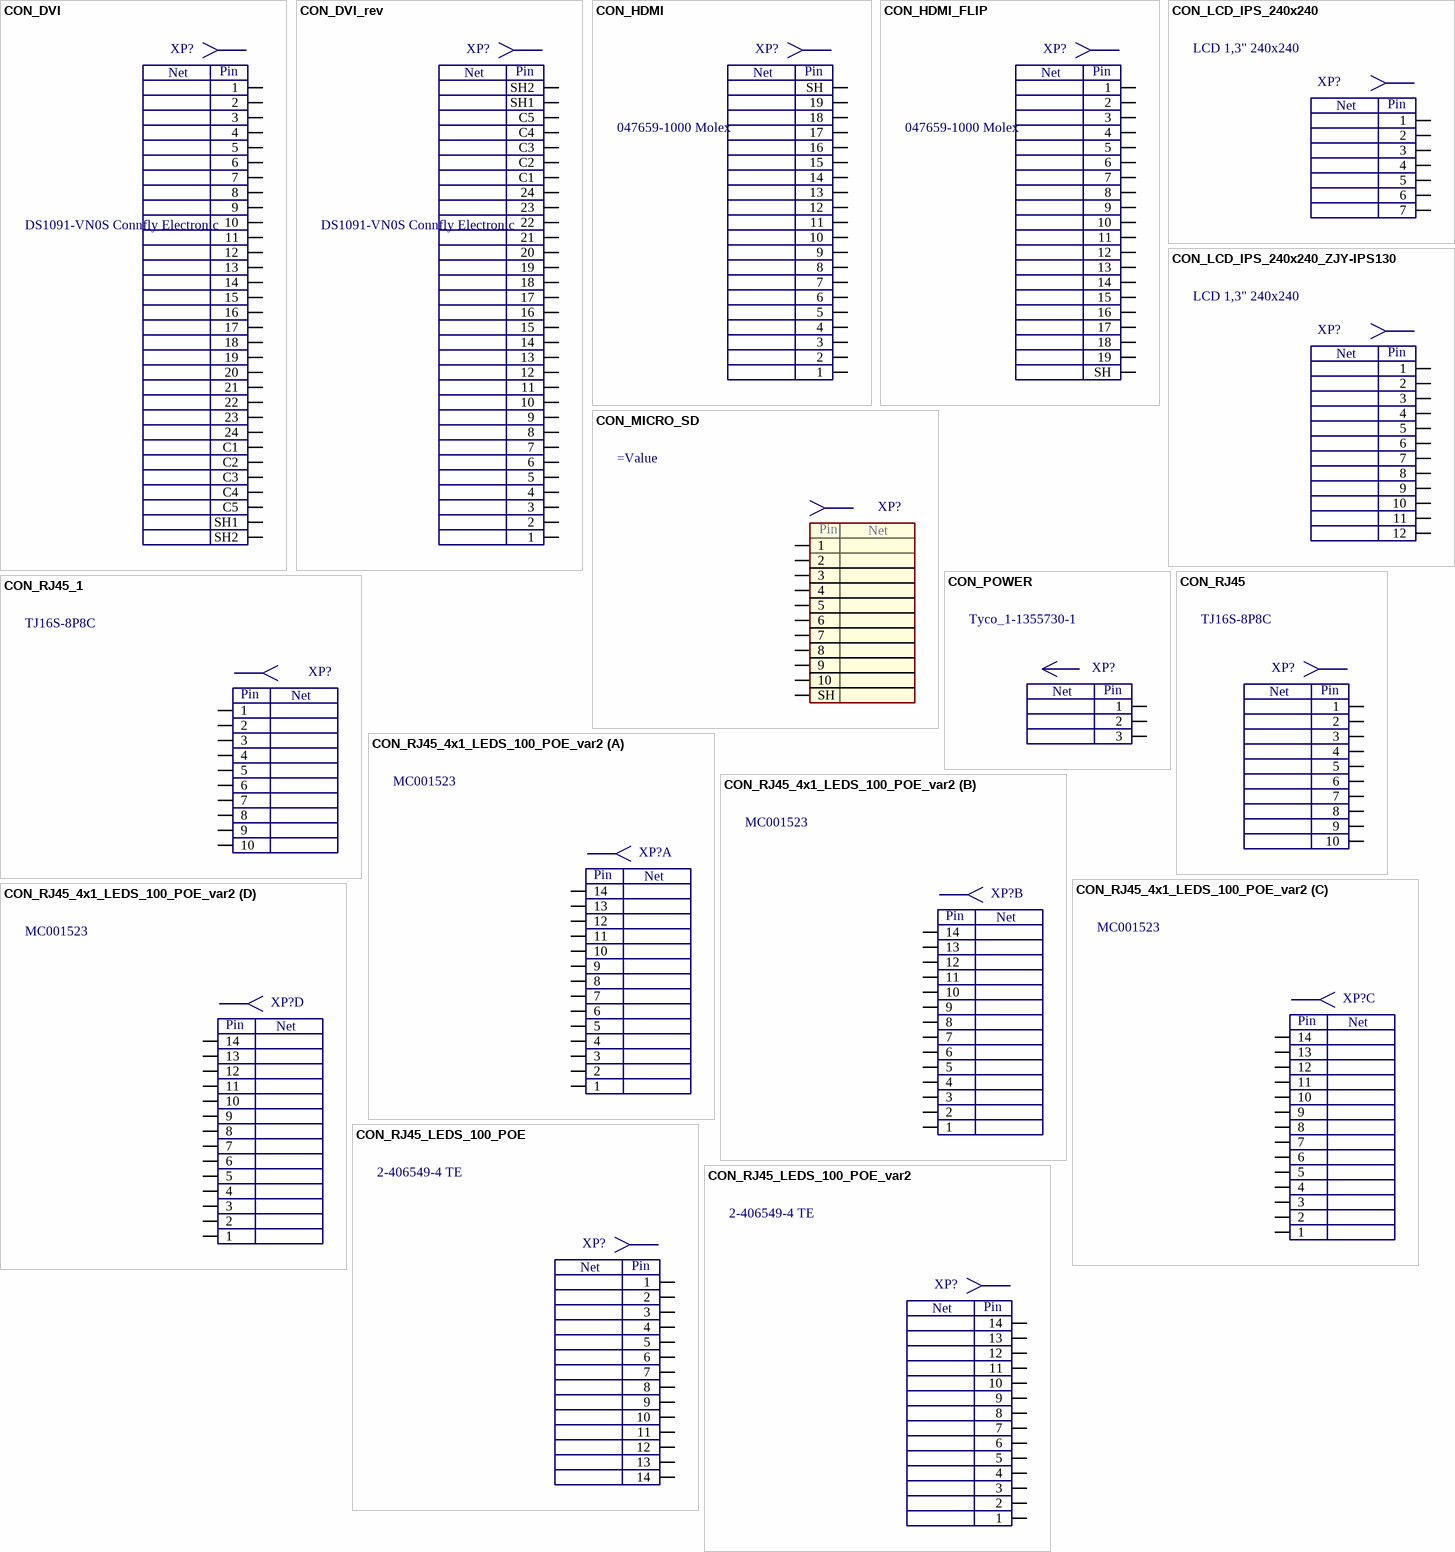
[diagram p11: symbols CON_DVI to CON_RJ45_LEDS_100_POE_var2]

## CON_DVI
designator XP?, comment DS1091-VN0S Connfly Electronic
HDMI Receptacle Connector 19 Position Surface Mount Vertical; Value: DS1091-VN0S Connfly Electronic
pins: 1, 2, 3, 4, 5, 6, 7, 8, 9, 10, 11, 12, 13, 14, 15, 16, 17, 18, 19, 20, 21, 22, 23, 24, C1, C2, C3, C4, C5, SH1, SH2
text: Net; Pin

## CON_DVI_rev
designator XP?, comment DS1091-VN0S Connfly Electronic
HDMI Receptacle Connector 19 Position Surface Mount Vertical; Value: DS1091-VN0S Connfly Electronic
pins: 1, 2, 3, 4, 5, 6, 7, 8, 9, 10, 11, 12, 13, 14, 15, 16, 17, 18, 19, 20, 21, 22, 23, 24, C1, C2, C3, C4, C5, SH1, SH2
text: Net; Pin

## CON_HDMI
designator XP?, comment 047659-1000 Molex
HDMI Receptacle Connector 19 Position Surface Mount Vertical; Value: 047659-1000 Molex
pins: 1, 2, 3, 4, 5, 6, 7, 8, 9, 10, 11, 12, 13, 14, 15, 16, 17, 18, 19, SH
text: Net; Pin

## CON_HDMI_FLIP
designator XP?, comment 047659-1000 Molex
HDMI Receptacle Connector 19 Position Surface Mount Vertical; Value: 047659-1000 Molex
pins: 1, 2, 3, 4, 5, 6, 7, 8, 9, 10, 11, 12, 13, 14, 15, 16, 17, 18, 19, SH
text: Net; Pin

## CON_LCD_IPS_240x240
designator XP?, comment LCD 1,3" 240x240
LCD IPS 1,3" 240 x 240 SPI Interface; Value: LCD 1,3" 240x240
pins: 1, 2, 3, 4, 5, 6, 7
text: Net; Pin

## CON_LCD_IPS_240x240_ZJY-IPS130
designator XP?, comment LCD 1,3" 240x240
LCD IPS 1,3" 240 x 240 SPI Interface; Value: LCD 1,3" 240x240
pins: 1, 2, 3, 4, 5, 6, 7, 8, 9, 10, 11, 12
text: Net; Pin

## CON_MICRO_SD
designator XP?
Разъем
pins: 1, 2, 3, 4, 5, 6, 7, 8, 9, 10, SH
text: Net; Pin

## CON_POWER
designator XP?, comment Tyco_1-1355730-1
USB 3.0 Type B Connector Amphenol; Value: Tyco_1-1355730-1
pins: 1A 1, 2A 2, 3A 3
text: Net; Pin

## CON_RJ45
designator XP?, comment TJ16S-8P8C
RJ45, Ethernet Connector Shielded 8p8c; Value: TJ16S-8P8C
pins: 1, 2, 3, 4, 5, 6, 7, 8, MH1 9, MH2 10
text: Net; Pin

## CON_RJ45_1
designator XP?, comment TJ16S-8P8C
RJ45, Ethernet Connector Shielded 8p8c; Value: TJ16S-8P8C
pins: 1, 2, 3, 4, 5, 6, 7, 8, MH1 9, MH2 10
text: Net; Pin

## CON_RJ45_4x1_LEDS_100_POE_var2
designator XP?, comment MC001523
RJ45, Ethernet Connector Shielded MC001523 Multicomp; Value: MC001523
part A pins: 1.1 1, 1.2 2, 1.3 3, 1.4 4, 1.5 5, 1.6 6, 1.7 7, 1.8 8, 1.9 9, 1.10 10, 1.11 11, 1.12 12, 13, 14
part B pins: 2.1 1, 2.2 2, 2.3 3, 2.4 4, 2.5 5, 2.6 6, 2.7 7, 2.8 8, 2.9 9, 2.10 10, 2.11 11, 2.12 12, 13, 14
part C pins: 3.1 1, 3.2 2, 3.3 3, 3.4 4, 3.5 5, 3.6 6, 3.7 7, 3.8 8, 3.9 9, 3.10 10, 3.11 11, 3.12 12, 13, 14
part D pins: 4.1 1, 4.2 2, 4.3 3, 4.4 4, 4.5 5, 4.6 6, 4.7 7, 4.8 8, 4.9 9, 4.10 10, 4.11 11, 4.12 12, 13, 14
part A text: Net; Pin
part B text: Net; Pin
part C text: Net; Pin
part D text: Net; Pin

## CON_RJ45_LEDS_100_POE
designator XP?, comment 2-406549-4 TE
RJ45, Ethernet Connector Shielded 2-406549-4 TE; Value: 2-406549-4 TE
pins: 1, 2, 3, 4, 5, 6, 7, 8, 9, 10, 11, 12, SHD 13, SHD 14
text: Net; Pin

## CON_RJ45_LEDS_100_POE_var2
designator XP?, comment 2-406549-4 TE
RJ45, Ethernet Connector Shielded 2-406549-4 TE; Value: 2-406549-4 TE
pins: 1, 2, 3, 4, 5, 6, 7, 8, 9, 10, 11, 12, SHD 13, SHD 14
text: Net; Pin

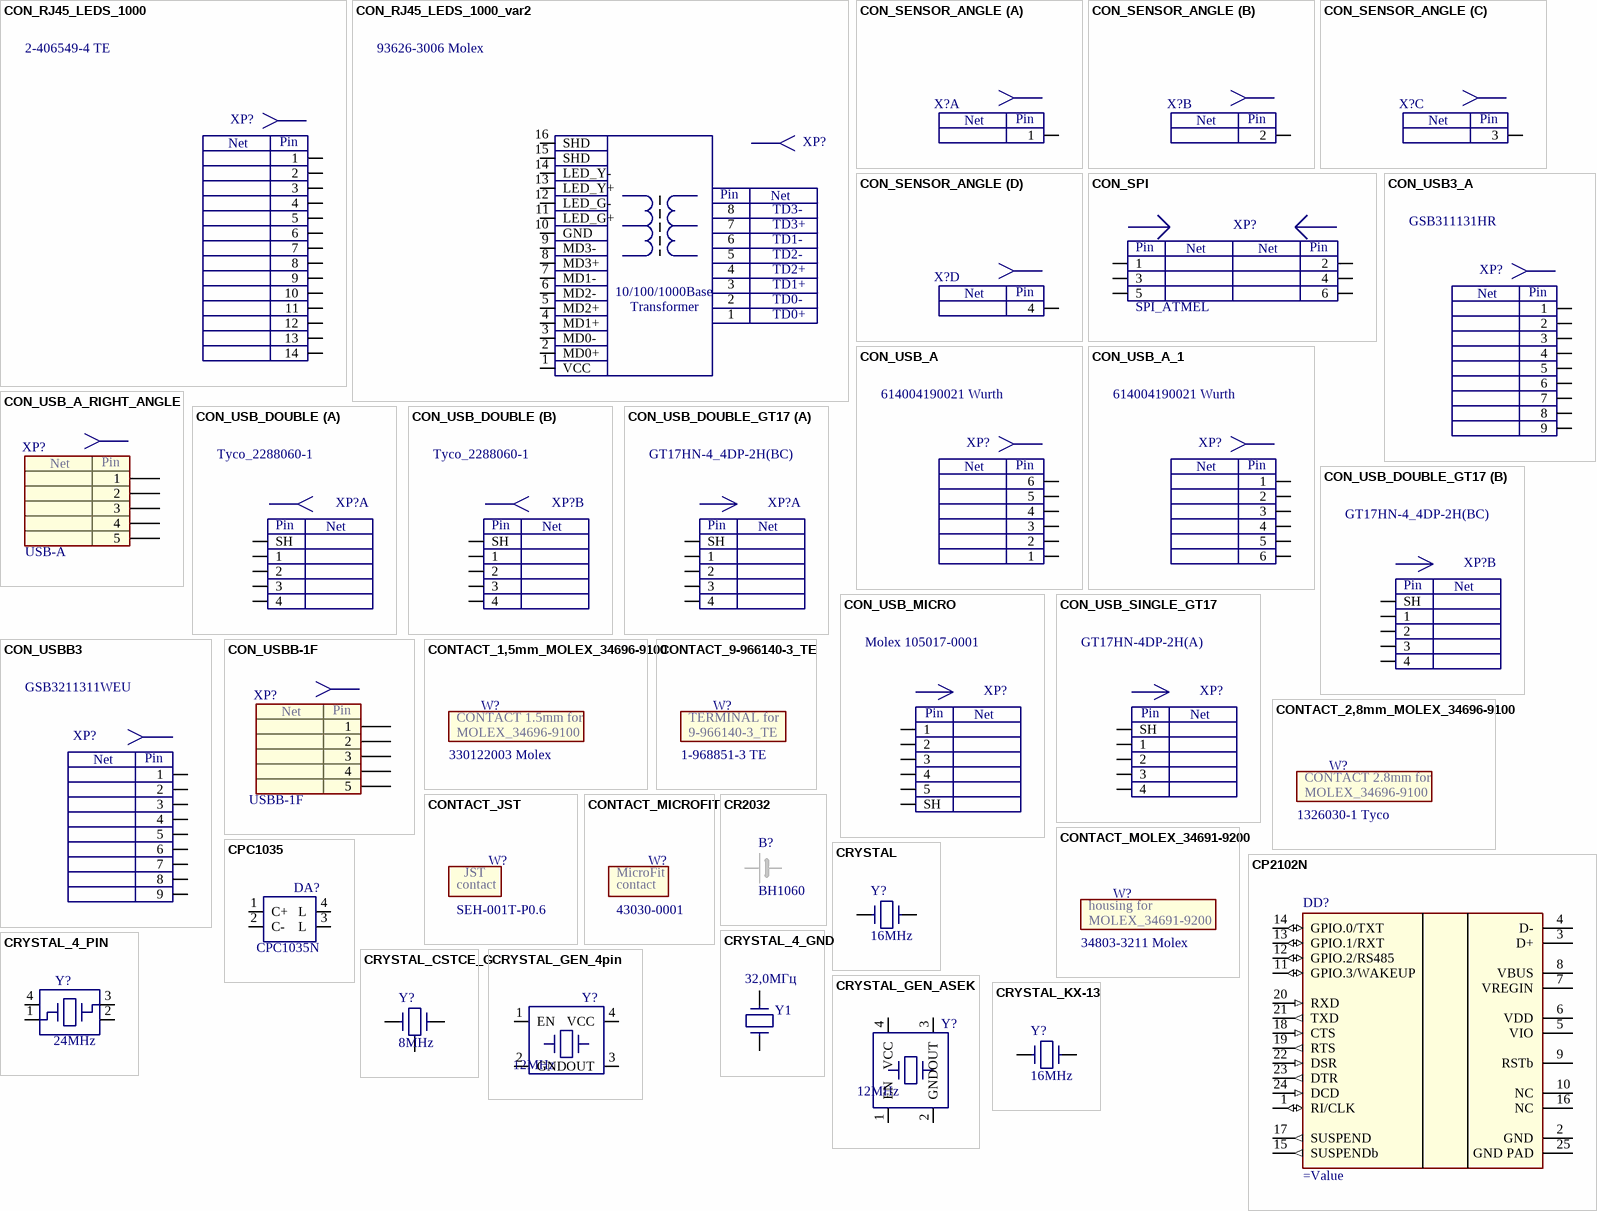
[diagram p12: symbols CON_RJ45_LEDS_1000 to CRYSTAL_KX-13]

## CON_RJ45_LEDS_1000
designator XP?, comment 2-406549-4 TE
RJ45, Ethernet Connector Shielded 2-406549-4 TE; Value: 2-406549-4 TE
pins: 1, 2, 3, 4, 5, 6, 7, 8, 9, 10, 11, 12, SHD 13, SHD 14
text: Net; Pin

## CON_RJ45_LEDS_1000_var2
designator XP?, comment 93626-3006 Molex
RJ45, Ethernet Connector Shielded 93626-3006 Molex; Value: 93626-3006 Molex
pins: 1 VCC, 2 MD0+, 3 MD0-, 4 MD1+, 5 MD2+, 6 MD2-, 7 MD1-, 8 MD3+, 9 MD3-, 10 GND, 11 LED_G+, 12 LED_G-, 13 LED_Y+, 14 LED_Y-, 15 SHD, 16 SHD
text: Net; Pin; TD3-; TD3+; TD1-; TD2-; TD2+; TD1+; 10/100/1000Base; TD0-; Transformer; TD0+

## CON_SENSOR_ANGLE
designator X?  (no BOM)
angle sensor
part A pins: 1
part B pins: 2
part C pins: 3
part D pins: 4
part A text: Net; Pin
part B text: Net; Pin
part C text: Net; Pin
part D text: Net; Pin

## CON_SPI
designator XP?, comment SPI_ATMEL
Value: SPI_ATMEL
pins: 1, 2, 3, 4, 5, 6
text: Net; Pin

## CON_USB3_A
designator XP?, comment GSB311131HR
USB 3.0 Type B Connector Amphenol; Value: GSB311131HR
pins: 1, 2, 3, 4, 5, 6, 7, 8, 9
text: Net; Pin

## CON_USB_A
designator XP?, comment 614004190021 Wurth
USB 2.0 Type A Connector; Value: 614004190021 Wurth
pins: 1, 2, 3, 4, 5, 6
text: Net; Pin

## CON_USB_A_1
designator XP?, comment 614004190021 Wurth
USB 2.0 Type A Connector; Value: 614004190021 Wurth
pins: 1, 2, 3, 4, 5, 6
text: Net; Pin

## CON_USB_A_RIGHT_ANGLE
designator XP?, comment USB-A
USB 2.0 Type A Connector Right Angle; Value: USB-A
pins: 1, 2, 3, 4, 5
text: Net; Pin

## CON_USB_DOUBLE
designator XP?, comment Tyco_2288060-1
USB 3.0 Type B Connector Amphenol; Value: Tyco_2288060-1
part A pins: 1A 1, 2A 2, 3A 3, 4A 4, SHA SH
part B pins: 1B 1, 2B 2, 3B 3, 4B 4, SHB SH
part A text: Net; Pin
part B text: Net; Pin

## CON_USB_DOUBLE_GT17
designator XP?, comment GT17HN-4_4DP-2H(BC)
USB Connector Hirose GT17HN-4_4DP-2H(BC); Value: GT17HN-4_4DP-2H(BC)
part A pins: 1A 1, 2A 2, 3A 3, 4A 4, SHA SH
part B pins: 1B 1, 2B 2, 3B 3, 4B 4, SHB SH
part A text: Net; Pin
part B text: Net; Pin

## CON_USB_MICRO
designator XP?, comment Molex 105017-0001
MICRO USB B Connector; Molex 105017-0001; Value: Molex 105017-0001
pins: 1, 2, 3, 4, 5, SH
text: Net; Pin

## CON_USB_SINGLE_GT17
designator XP?, comment GT17HN-4DP-2H(A)
USB Connector Hirose GT17HN-4DP-2H(A); Value: GT17HN-4DP-2H(A)
pins: 1, 2, 3, 4, SH
text: Net; Pin

## CON_USBB3
designator XP?, comment GSB3211311WEU
USB 3.0 Type B Connector Amphenol; Value: GSB3211311WEU
pins: 1, 2, 3, 4, 5, 6, 7, 8, 9
text: Net; Pin

## CON_USBB-1F
designator XP?, comment USBB-1F
USB 2.0 Type B Connector; Value: USBB-1F
pins: 1, 2, 3, 4, 5
text: Net; Pin

## CONTACT_1,5mm_MOLEX_34696-9100
designator W?, comment 330122003 Molex  (mechanical)
EHR-3  header for JST connector EH series; Value: 330122003 Molex
pins: 3 NC (power) hidden, 6 B hidden
text: CONTACT 1.5mm for; MOLEX_34696-9100

## CONTACT_2,8mm_MOLEX_34696-9100
designator W?, comment 1326030-1 Tyco  (mechanical)
EHR-3  header for JST connector EH series; Value: 1326030-1 Tyco
pins: 3 NC (power) hidden, 6 B hidden
text: CONTACT 2.8mm for; MOLEX_34696-9100

## CONTACT_9-966140-3_TE
designator W?, comment 1-968851-3 TE  (mechanical)
EHR-3  header for JST connector EH series; Value: 1-968851-3 TE
pins: 3 NC (power) hidden, 6 B hidden
text: TERMINAL for; 9-966140-3_TE

## CONTACT_JST
designator W?, comment SEH-001T-P0.6  (mechanical)
CONTACTs for JST connector EH series; Value: SEH-001T-P0.6
pins: 3 NC (power) hidden, 6 B hidden
text: JST; contact

## CONTACT_MICROFIT
designator W?, comment 43030-0001  (mechanical)
CONTACTs for JST connector EH series; Value: 43030-0001
pins: 3 NC (power) hidden, 6 B hidden
text: MicroFit; contact

## CONTACT_MOLEX_34691-9200
designator W?, comment 34803-3211 Molex  (mechanical)
EHR-3  header for JST connector EH series; Value: 34803-3211 Molex
pins: 3 NC (power) hidden, 6 B hidden
text: housing for; MOLEX_34691-9200